# Altium integrated library Renesas Microcontroller R8C.IntLib: 628 symbols (part 17 of 33)
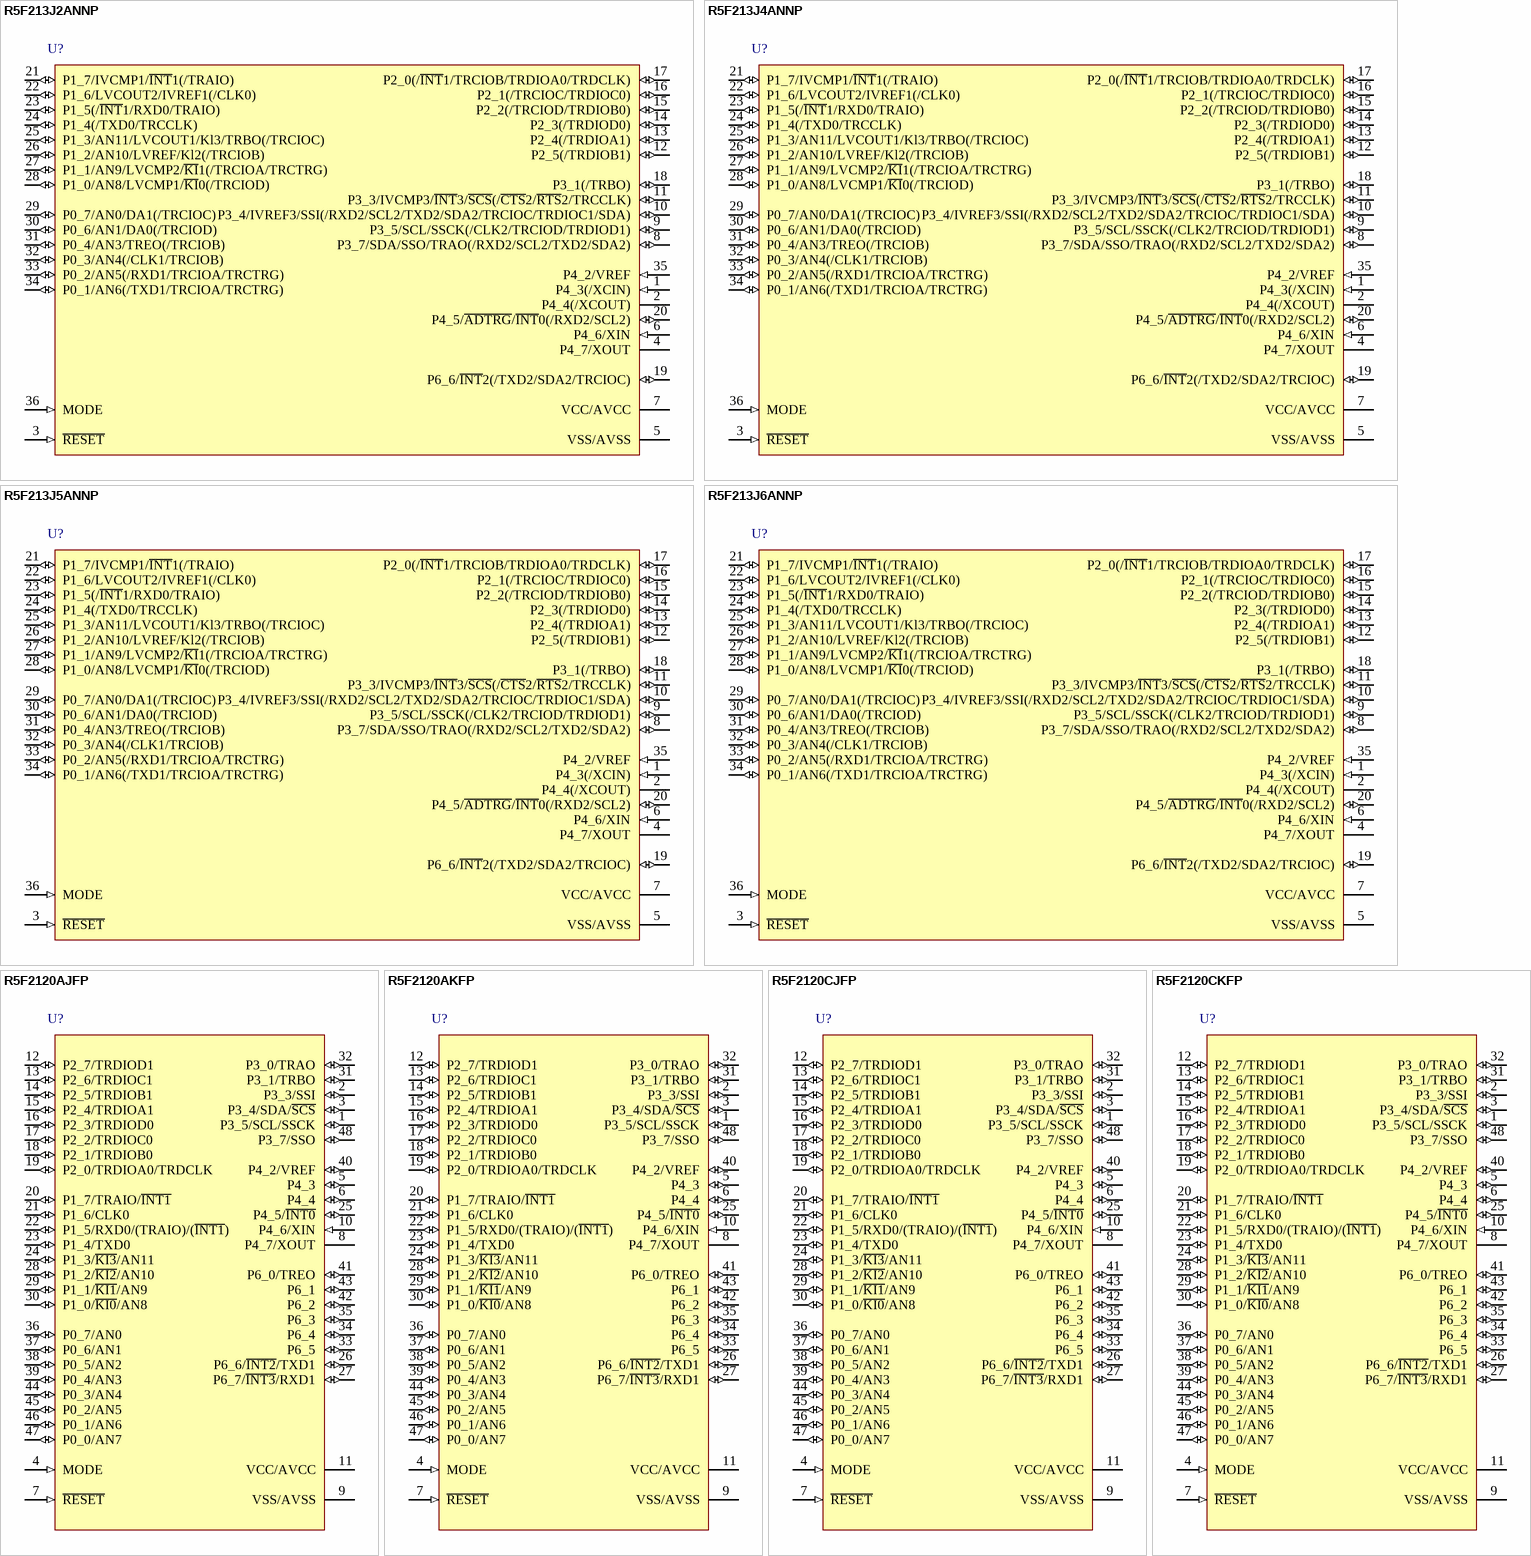
[diagram p132: symbols R5F213J2ANNP to R5F2120CKFP]

## R5F213J4ANNP
designator U?
R8C/3JA Group Single Chip 16-Bit CMOS MCU, 16K + 4K ROM, 1.5K RAM, N Version; Published: 17-Feb-2010; DatasheetVersion: Rev.1.10, Sep-2009; PackageVersion: Jun-2006; PackageReference: PWQN0036KA-B; Publisher: Altium Limited; PackageDescription: 36-Pin Plastic Very-very Thin QFN, 6 x 6 X 0.75 mm Body, 0.5 mm Pitch, Exposed Pad; Code_JEITA: P-HWQFN36-6x6-0.50; ComponentLink1Description: Manufacturer Link; ComponentLink1URL: http://sg.renesas.com/fmwk.jsp?cnt=r8c_family_landing.jsp&fp=/products/mpumcu/r8c_family/; ComponentLink2Description: Datasheet; ComponentLink2URL: http://documentation.renesas.com/eng/products/mpumcu/rej03b0263_r8c3jads.pdf; ComponentLink3Description: Packaging Specification; ComponentLink3URL: http://sg.renesas.com/media/products/common_info/package/pdf/ic/code/pwqn0036ka_b.pdf
footprint PWQN0036KA-B_N (QFN, 36-Leads, Body 6x6mm, Pitch 0.5mm, IPC Medium Density)
footprint PWQN0036KA-B_L (QFN, 36-Leads, Body 6x6mm, Pitch 0.5mm, IPC High Density)
footprint PWQN0036KA-B_M (QFN, 36-Leads, Body 6x6mm, Pitch 0.5mm, IPC Low Density)
pins: 1 P4_3(/XCIN) (in), 2 P4_4(/XCOUT), 3 ~{RESET} (in), 4 P4_7/XOUT, 5 VSS/AVSS (power), 6 P4_6/XIN (in), 7 VCC/AVCC (power), 8 P3_7/SDA/SSO/TRAO(/RXD2/SCL2/TXD2/SDA2) (io), 9 P3_5/SCL/SSCK(/CLK2/TRCIOD/TRDIOD1) (io), 10 P3_4/IVREF3/SSI(/RXD2/SCL2/TXD2/SDA2/TRCIOC/TRDIOC1/SDA) (io), 11 P3_3/IVCMP3/~{INT}3/~{SCS}(/~{CTS}2/~{RTS}2/TRCCLK) (io), 12 P2_5(/TRDIOB1) (io), 13 P2_4(/TRDIOA1) (io), 14 P2_3(/TRDIOD0) (io), 15 P2_2(/TRCIOD/TRDIOB0) (io), 16 P2_1(/TRCIOC/TRDIOC0) (io), 17 P2_0(/~{INT}1/TRCIOB/TRDIOA0/TRDCLK) (io), 18 P3_1(/TRBO) (io), 19 P6_6/~{INT}2(/TXD2/SDA2/TRCIOC) (io), 20 P4_5/~{ADTRG}/~{INT}0(/RXD2/SCL2) (io), 21 P1_7/IVCMP1/~{INT}1(/TRAIO) (io), 22 P1_6/LVCOUT2/IVREF1(/CLK0) (io), 23 P1_5(/~{INT}1/RXD0/TRAIO) (io), 24 P1_4(/TXD0/TRCCLK) (io), 25 P1_3/AN11/LVCOUT1/Kl3/TRBO(/TRCIOC) (io), 26 P1_2/AN10/LVREF/Kl2(/TRCIOB) (io), 27 P1_1/AN9/LVCMP2/~{KI}1(/TRCIOA/TRCTRG) (io), 28 P1_0/AN8/LVCMP1/~{KI}0(/TRCIOD) (io), 29 P0_7/AN0/DA1(/TRCIOC) (io), 30 P0_6/AN1/DA0(/TRCIOD) (io), 31 P0_4/AN3/TREO(/TRCIOB) (io), 32 P0_3/AN4(/CLK1/TRCIOB) (io), 33 P0_2/AN5(/RXD1/TRCIOA/TRCTRG) (io), 34 P0_1/AN6(/TXD1/TRCIOA/TRCTRG) (io), 35 P4_2/VREF (in), 36 MODE (in)

## R5F213J5ANNP
designator U?
R8C/3JA Group Single Chip 16-Bit CMOS MCU, 24K + 4K ROM, 2K RAM, N Version; Published: 17-Feb-2010; DatasheetVersion: Rev.1.10, Sep-2009; PackageVersion: Jun-2006; PackageReference: PWQN0036KA-B; Publisher: Altium Limited; PackageDescription: 36-Pin Plastic Very-very Thin QFN, 6 x 6 X 0.75 mm Body, 0.5 mm Pitch, Exposed Pad; Code_JEITA: P-HWQFN36-6x6-0.50; ComponentLink1Description: Manufacturer Link; ComponentLink1URL: http://sg.renesas.com/fmwk.jsp?cnt=r8c_family_landing.jsp&fp=/products/mpumcu/r8c_family/; ComponentLink2Description: Datasheet; ComponentLink2URL: http://documentation.renesas.com/eng/products/mpumcu/rej03b0263_r8c3jads.pdf; ComponentLink3Description: Packaging Specification; ComponentLink3URL: http://sg.renesas.com/media/products/common_info/package/pdf/ic/code/pwqn0036ka_b.pdf
footprint PWQN0036KA-B_N (QFN, 36-Leads, Body 6x6mm, Pitch 0.5mm, IPC Medium Density)
footprint PWQN0036KA-B_L (QFN, 36-Leads, Body 6x6mm, Pitch 0.5mm, IPC High Density)
footprint PWQN0036KA-B_M (QFN, 36-Leads, Body 6x6mm, Pitch 0.5mm, IPC Low Density)
pins: 1 P4_3(/XCIN) (in), 2 P4_4(/XCOUT), 3 ~{RESET} (in), 4 P4_7/XOUT, 5 VSS/AVSS (power), 6 P4_6/XIN (in), 7 VCC/AVCC (power), 8 P3_7/SDA/SSO/TRAO(/RXD2/SCL2/TXD2/SDA2) (io), 9 P3_5/SCL/SSCK(/CLK2/TRCIOD/TRDIOD1) (io), 10 P3_4/IVREF3/SSI(/RXD2/SCL2/TXD2/SDA2/TRCIOC/TRDIOC1/SDA) (io), 11 P3_3/IVCMP3/~{INT}3/~{SCS}(/~{CTS}2/~{RTS}2/TRCCLK) (io), 12 P2_5(/TRDIOB1) (io), 13 P2_4(/TRDIOA1) (io), 14 P2_3(/TRDIOD0) (io), 15 P2_2(/TRCIOD/TRDIOB0) (io), 16 P2_1(/TRCIOC/TRDIOC0) (io), 17 P2_0(/~{INT}1/TRCIOB/TRDIOA0/TRDCLK) (io), 18 P3_1(/TRBO) (io), 19 P6_6/~{INT}2(/TXD2/SDA2/TRCIOC) (io), 20 P4_5/~{ADTRG}/~{INT}0(/RXD2/SCL2) (io), 21 P1_7/IVCMP1/~{INT}1(/TRAIO) (io), 22 P1_6/LVCOUT2/IVREF1(/CLK0) (io), 23 P1_5(/~{INT}1/RXD0/TRAIO) (io), 24 P1_4(/TXD0/TRCCLK) (io), 25 P1_3/AN11/LVCOUT1/Kl3/TRBO(/TRCIOC) (io), 26 P1_2/AN10/LVREF/Kl2(/TRCIOB) (io), 27 P1_1/AN9/LVCMP2/~{KI}1(/TRCIOA/TRCTRG) (io), 28 P1_0/AN8/LVCMP1/~{KI}0(/TRCIOD) (io), 29 P0_7/AN0/DA1(/TRCIOC) (io), 30 P0_6/AN1/DA0(/TRCIOD) (io), 31 P0_4/AN3/TREO(/TRCIOB) (io), 32 P0_3/AN4(/CLK1/TRCIOB) (io), 33 P0_2/AN5(/RXD1/TRCIOA/TRCTRG) (io), 34 P0_1/AN6(/TXD1/TRCIOA/TRCTRG) (io), 35 P4_2/VREF (in), 36 MODE (in)

## R5F213J6ANNP
designator U?
R8C/3JA Group Single Chip 16-Bit CMOS MCU, 32K + 4K ROM, 2.5K RAM, N Version; Published: 17-Feb-2010; DatasheetVersion: Rev.1.10, Sep-2009; PackageVersion: Jun-2006; PackageReference: PWQN0036KA-B; Publisher: Altium Limited; PackageDescription: 36-Pin Plastic Very-very Thin QFN, 6 x 6 X 0.75 mm Body, 0.5 mm Pitch, Exposed Pad; Code_JEITA: P-HWQFN36-6x6-0.50; ComponentLink1Description: Manufacturer Link; ComponentLink1URL: http://sg.renesas.com/fmwk.jsp?cnt=r8c_family_landing.jsp&fp=/products/mpumcu/r8c_family/; ComponentLink2Description: Datasheet; ComponentLink2URL: http://documentation.renesas.com/eng/products/mpumcu/rej03b0263_r8c3jads.pdf; ComponentLink3Description: Packaging Specification; ComponentLink3URL: http://sg.renesas.com/media/products/common_info/package/pdf/ic/code/pwqn0036ka_b.pdf
footprint PWQN0036KA-B_N (QFN, 36-Leads, Body 6x6mm, Pitch 0.5mm, IPC Medium Density)
footprint PWQN0036KA-B_L (QFN, 36-Leads, Body 6x6mm, Pitch 0.5mm, IPC High Density)
footprint PWQN0036KA-B_M (QFN, 36-Leads, Body 6x6mm, Pitch 0.5mm, IPC Low Density)
pins: 1 P4_3(/XCIN) (in), 2 P4_4(/XCOUT), 3 ~{RESET} (in), 4 P4_7/XOUT, 5 VSS/AVSS (power), 6 P4_6/XIN (in), 7 VCC/AVCC (power), 8 P3_7/SDA/SSO/TRAO(/RXD2/SCL2/TXD2/SDA2) (io), 9 P3_5/SCL/SSCK(/CLK2/TRCIOD/TRDIOD1) (io), 10 P3_4/IVREF3/SSI(/RXD2/SCL2/TXD2/SDA2/TRCIOC/TRDIOC1/SDA) (io), 11 P3_3/IVCMP3/~{INT}3/~{SCS}(/~{CTS}2/~{RTS}2/TRCCLK) (io), 12 P2_5(/TRDIOB1) (io), 13 P2_4(/TRDIOA1) (io), 14 P2_3(/TRDIOD0) (io), 15 P2_2(/TRCIOD/TRDIOB0) (io), 16 P2_1(/TRCIOC/TRDIOC0) (io), 17 P2_0(/~{INT}1/TRCIOB/TRDIOA0/TRDCLK) (io), 18 P3_1(/TRBO) (io), 19 P6_6/~{INT}2(/TXD2/SDA2/TRCIOC) (io), 20 P4_5/~{ADTRG}/~{INT}0(/RXD2/SCL2) (io), 21 P1_7/IVCMP1/~{INT}1(/TRAIO) (io), 22 P1_6/LVCOUT2/IVREF1(/CLK0) (io), 23 P1_5(/~{INT}1/RXD0/TRAIO) (io), 24 P1_4(/TXD0/TRCCLK) (io), 25 P1_3/AN11/LVCOUT1/Kl3/TRBO(/TRCIOC) (io), 26 P1_2/AN10/LVREF/Kl2(/TRCIOB) (io), 27 P1_1/AN9/LVCMP2/~{KI}1(/TRCIOA/TRCTRG) (io), 28 P1_0/AN8/LVCMP1/~{KI}0(/TRCIOD) (io), 29 P0_7/AN0/DA1(/TRCIOC) (io), 30 P0_6/AN1/DA0(/TRCIOD) (io), 31 P0_4/AN3/TREO(/TRCIOB) (io), 32 P0_3/AN4(/CLK1/TRCIOB) (io), 33 P0_2/AN5(/RXD1/TRCIOA/TRCTRG) (io), 34 P0_1/AN6(/TXD1/TRCIOA/TRCTRG) (io), 35 P4_2/VREF (in), 36 MODE (in)

## R5F2120AJFP
designator U?
R8C/20 Group Single Chip 16-Bit CMOS MCU, 96K ROM, 5K RAM, J Version; Published: 30-Oct-2009; DatasheetVersion: Rev.2.00, Aug-2008; PackageVersion: Oct-2005; PackageReference: PLQP0048KB-A; Publisher: Altium Limited; PackageDescription: 48-Pin Plastic Low Profile QFP, 7 x 7 x 1.4 mm Body, 0.5 mm Pitch; Code_JEITA: P-LQFP48-7x7-0.50; Code_IPC: SQFP50P900X900-48; ComponentLink1Description: Manufacturer Link; ComponentLink1URL: http://sg.renesas.com/fmwk.jsp?cnt=r8c_family_landing.jsp&fp=/products/mpumcu/r8c_family/; ComponentLink2Description: Datasheet; ComponentLink2URL: http://documentation.renesas.com/eng/products/mpumcu/rej03b0120_r8c2021ds.pdf; ComponentLink3Description: Packaging Specification; ComponentLink3URL: http://sg.renesas.com/media/products/common_info/package/pdf/ic/code/plqp0048kb_a.pdf
footprint PLQP0048KB-A_N (Shrink QFP, 48-Leads, Body 7x7mm, Pitch 0.5mm, IPC Medium Density)
footprint PLQP0048KB-A_L (Shrink QFP, 48-Leads, Body 7x7mm, Pitch 0.5mm, IPC High Density)
footprint PLQP0048KB-A_M (Shrink QFP, 48-Leads, Body 7x7mm, Pitch 0.5mm, IPC Low Density)
pins: 1 P3_5/SCL/SSCK (io), 2 P3_3/SSI (io), 3 P3_4/SDA/~{SCS} (io), 4 MODE (in), 5 P4_3 (io), 6 P4_4 (io), 7 ~{RESET} (in), 8 P4_7/XOUT, 9 VSS/AVSS (power), 10 P4_6/XIN (in), 11 VCC/AVCC (power), 12 P2_7/TRDIOD1 (io), 13 P2_6/TRDIOC1 (io), 14 P2_5/TRDIOB1 (io), 15 P2_4/TRDIOA1 (io), 16 P2_3/TRDIOD0 (io), 17 P2_2/TRDIOC0 (io), 18 P2_1/TRDIOB0 (io), 19 P2_0/TRDIOA0/TRDCLK (io), 20 P1_7/TRAIO/~{INT1} (io), 21 P1_6/CLK0 (io), 22 P1_5/RXD0/(TRAIO)/(~{INT1}) (io), 23 P1_4/TXD0 (io), 24 P1_3/~{KI3}/AN11 (io), 25 P4_5/~{INT0} (io), 26 P6_6/~{INT2}/TXD1 (io), 27 P6_7/~{INT3}/RXD1 (io), 28 P1_2/~{KI2}/AN10 (io), 29 P1_1/~{KI1}/AN9 (io), 30 P1_0/~{KI0}/AN8 (io), 31 P3_1/TRBO (io), 32 P3_0/TRAO (io), 33 P6_5 (io), 34 P6_4 (io), 35 P6_3 (io), 36 P0_7/AN0 (io), 37 P0_6/AN1 (io), 38 P0_5/AN2 (io), 39 P0_4/AN3 (io), 40 P4_2/VREF (io), 41 P6_0/TREO (io), 42 P6_2 (io), 43 P6_1 (io), 44 P0_3/AN4 (io), 45 P0_2/AN5 (io), 46 P0_1/AN6 (io), 47 P0_0/AN7 (io), 48 P3_7/SSO (io)

## R5F2120AKFP
designator U?
R8C/20 Group Single Chip 16-Bit CMOS MCU, 96K ROM, 5K RAM, K Version; Published: 30-Oct-2009; DatasheetVersion: Rev.2.00, Aug-2008; PackageVersion: Oct-2005; PackageReference: PLQP0048KB-A; Publisher: Altium Limited; PackageDescription: 48-Pin Plastic Low Profile QFP, 7 x 7 x 1.4 mm Body, 0.5 mm Pitch; Code_JEITA: P-LQFP48-7x7-0.50; Code_IPC: SQFP50P900X900-48; ComponentLink1Description: Manufacturer Link; ComponentLink1URL: http://sg.renesas.com/fmwk.jsp?cnt=r8c_family_landing.jsp&fp=/products/mpumcu/r8c_family/; ComponentLink2Description: Datasheet; ComponentLink2URL: http://documentation.renesas.com/eng/products/mpumcu/rej03b0120_r8c2021ds.pdf; ComponentLink3Description: Packaging Specification; ComponentLink3URL: http://sg.renesas.com/media/products/common_info/package/pdf/ic/code/plqp0048kb_a.pdf
footprint PLQP0048KB-A_N (Shrink QFP, 48-Leads, Body 7x7mm, Pitch 0.5mm, IPC Medium Density)
footprint PLQP0048KB-A_L (Shrink QFP, 48-Leads, Body 7x7mm, Pitch 0.5mm, IPC High Density)
footprint PLQP0048KB-A_M (Shrink QFP, 48-Leads, Body 7x7mm, Pitch 0.5mm, IPC Low Density)
pins: 1 P3_5/SCL/SSCK (io), 2 P3_3/SSI (io), 3 P3_4/SDA/~{SCS} (io), 4 MODE (in), 5 P4_3 (io), 6 P4_4 (io), 7 ~{RESET} (in), 8 P4_7/XOUT, 9 VSS/AVSS (power), 10 P4_6/XIN (in), 11 VCC/AVCC (power), 12 P2_7/TRDIOD1 (io), 13 P2_6/TRDIOC1 (io), 14 P2_5/TRDIOB1 (io), 15 P2_4/TRDIOA1 (io), 16 P2_3/TRDIOD0 (io), 17 P2_2/TRDIOC0 (io), 18 P2_1/TRDIOB0 (io), 19 P2_0/TRDIOA0/TRDCLK (io), 20 P1_7/TRAIO/~{INT1} (io), 21 P1_6/CLK0 (io), 22 P1_5/RXD0/(TRAIO)/(~{INT1}) (io), 23 P1_4/TXD0 (io), 24 P1_3/~{KI3}/AN11 (io), 25 P4_5/~{INT0} (io), 26 P6_6/~{INT2}/TXD1 (io), 27 P6_7/~{INT3}/RXD1 (io), 28 P1_2/~{KI2}/AN10 (io), 29 P1_1/~{KI1}/AN9 (io), 30 P1_0/~{KI0}/AN8 (io), 31 P3_1/TRBO (io), 32 P3_0/TRAO (io), 33 P6_5 (io), 34 P6_4 (io), 35 P6_3 (io), 36 P0_7/AN0 (io), 37 P0_6/AN1 (io), 38 P0_5/AN2 (io), 39 P0_4/AN3 (io), 40 P4_2/VREF (io), 41 P6_0/TREO (io), 42 P6_2 (io), 43 P6_1 (io), 44 P0_3/AN4 (io), 45 P0_2/AN5 (io), 46 P0_1/AN6 (io), 47 P0_0/AN7 (io), 48 P3_7/SSO (io)

## R5F2120CJFP
designator U?
R8C/20 Group Single Chip 16-Bit CMOS MCU, 128K ROM, 6K RAM, J Version; Published: 30-Oct-2009; DatasheetVersion: Rev.2.00, Aug-2008; PackageVersion: Oct-2005; PackageReference: PLQP0048KB-A; Publisher: Altium Limited; PackageDescription: 48-Pin Plastic Low Profile QFP, 7 x 7 x 1.4 mm Body, 0.5 mm Pitch; Code_JEITA: P-LQFP48-7x7-0.50; Code_IPC: SQFP50P900X900-48; ComponentLink1Description: Manufacturer Link; ComponentLink1URL: http://sg.renesas.com/fmwk.jsp?cnt=r8c_family_landing.jsp&fp=/products/mpumcu/r8c_family/; ComponentLink2Description: Datasheet; ComponentLink2URL: http://documentation.renesas.com/eng/products/mpumcu/rej03b0120_r8c2021ds.pdf; ComponentLink3Description: Packaging Specification; ComponentLink3URL: http://sg.renesas.com/media/products/common_info/package/pdf/ic/code/plqp0048kb_a.pdf
footprint PLQP0048KB-A_N (Shrink QFP, 48-Leads, Body 7x7mm, Pitch 0.5mm, IPC Medium Density)
footprint PLQP0048KB-A_L (Shrink QFP, 48-Leads, Body 7x7mm, Pitch 0.5mm, IPC High Density)
footprint PLQP0048KB-A_M (Shrink QFP, 48-Leads, Body 7x7mm, Pitch 0.5mm, IPC Low Density)
pins: 1 P3_5/SCL/SSCK (io), 2 P3_3/SSI (io), 3 P3_4/SDA/~{SCS} (io), 4 MODE (in), 5 P4_3 (io), 6 P4_4 (io), 7 ~{RESET} (in), 8 P4_7/XOUT, 9 VSS/AVSS (power), 10 P4_6/XIN (in), 11 VCC/AVCC (power), 12 P2_7/TRDIOD1 (io), 13 P2_6/TRDIOC1 (io), 14 P2_5/TRDIOB1 (io), 15 P2_4/TRDIOA1 (io), 16 P2_3/TRDIOD0 (io), 17 P2_2/TRDIOC0 (io), 18 P2_1/TRDIOB0 (io), 19 P2_0/TRDIOA0/TRDCLK (io), 20 P1_7/TRAIO/~{INT1} (io), 21 P1_6/CLK0 (io), 22 P1_5/RXD0/(TRAIO)/(~{INT1}) (io), 23 P1_4/TXD0 (io), 24 P1_3/~{KI3}/AN11 (io), 25 P4_5/~{INT0} (io), 26 P6_6/~{INT2}/TXD1 (io), 27 P6_7/~{INT3}/RXD1 (io), 28 P1_2/~{KI2}/AN10 (io), 29 P1_1/~{KI1}/AN9 (io), 30 P1_0/~{KI0}/AN8 (io), 31 P3_1/TRBO (io), 32 P3_0/TRAO (io), 33 P6_5 (io), 34 P6_4 (io), 35 P6_3 (io), 36 P0_7/AN0 (io), 37 P0_6/AN1 (io), 38 P0_5/AN2 (io), 39 P0_4/AN3 (io), 40 P4_2/VREF (io), 41 P6_0/TREO (io), 42 P6_2 (io), 43 P6_1 (io), 44 P0_3/AN4 (io), 45 P0_2/AN5 (io), 46 P0_1/AN6 (io), 47 P0_0/AN7 (io), 48 P3_7/SSO (io)

## R5F2120CKFP
designator U?
R8C/20 Group Single Chip 16-Bit CMOS MCU, 128K ROM, 6K RAM, K Version; Published: 30-Oct-2009; DatasheetVersion: Rev.2.00, Aug-2008; PackageVersion: Oct-2005; PackageReference: PLQP0048KB-A; Publisher: Altium Limited; PackageDescription: 48-Pin Plastic Low Profile QFP, 7 x 7 x 1.4 mm Body, 0.5 mm Pitch; Code_JEITA: P-LQFP48-7x7-0.50; Code_IPC: SQFP50P900X900-48; ComponentLink1Description: Manufacturer Link; ComponentLink1URL: http://sg.renesas.com/fmwk.jsp?cnt=r8c_family_landing.jsp&fp=/products/mpumcu/r8c_family/; ComponentLink2Description: Datasheet; ComponentLink2URL: http://documentation.renesas.com/eng/products/mpumcu/rej03b0120_r8c2021ds.pdf; ComponentLink3Description: Packaging Specification; ComponentLink3URL: http://sg.renesas.com/media/products/common_info/package/pdf/ic/code/plqp0048kb_a.pdf
footprint PLQP0048KB-A_N (Shrink QFP, 48-Leads, Body 7x7mm, Pitch 0.5mm, IPC Medium Density)
footprint PLQP0048KB-A_L (Shrink QFP, 48-Leads, Body 7x7mm, Pitch 0.5mm, IPC High Density)
footprint PLQP0048KB-A_M (Shrink QFP, 48-Leads, Body 7x7mm, Pitch 0.5mm, IPC Low Density)
pins: 1 P3_5/SCL/SSCK (io), 2 P3_3/SSI (io), 3 P3_4/SDA/~{SCS} (io), 4 MODE (in), 5 P4_3 (io), 6 P4_4 (io), 7 ~{RESET} (in), 8 P4_7/XOUT, 9 VSS/AVSS (power), 10 P4_6/XIN (in), 11 VCC/AVCC (power), 12 P2_7/TRDIOD1 (io), 13 P2_6/TRDIOC1 (io), 14 P2_5/TRDIOB1 (io), 15 P2_4/TRDIOA1 (io), 16 P2_3/TRDIOD0 (io), 17 P2_2/TRDIOC0 (io), 18 P2_1/TRDIOB0 (io), 19 P2_0/TRDIOA0/TRDCLK (io), 20 P1_7/TRAIO/~{INT1} (io), 21 P1_6/CLK0 (io), 22 P1_5/RXD0/(TRAIO)/(~{INT1}) (io), 23 P1_4/TXD0 (io), 24 P1_3/~{KI3}/AN11 (io), 25 P4_5/~{INT0} (io), 26 P6_6/~{INT2}/TXD1 (io), 27 P6_7/~{INT3}/RXD1 (io), 28 P1_2/~{KI2}/AN10 (io), 29 P1_1/~{KI1}/AN9 (io), 30 P1_0/~{KI0}/AN8 (io), 31 P3_1/TRBO (io), 32 P3_0/TRAO (io), 33 P6_5 (io), 34 P6_4 (io), 35 P6_3 (io), 36 P0_7/AN0 (io), 37 P0_6/AN1 (io), 38 P0_5/AN2 (io), 39 P0_4/AN3 (io), 40 P4_2/VREF (io), 41 P6_0/TREO (io), 42 P6_2 (io), 43 P6_1 (io), 44 P0_3/AN4 (io), 45 P0_2/AN5 (io), 46 P0_1/AN6 (io), 47 P0_0/AN7 (io), 48 P3_7/SSO (io)

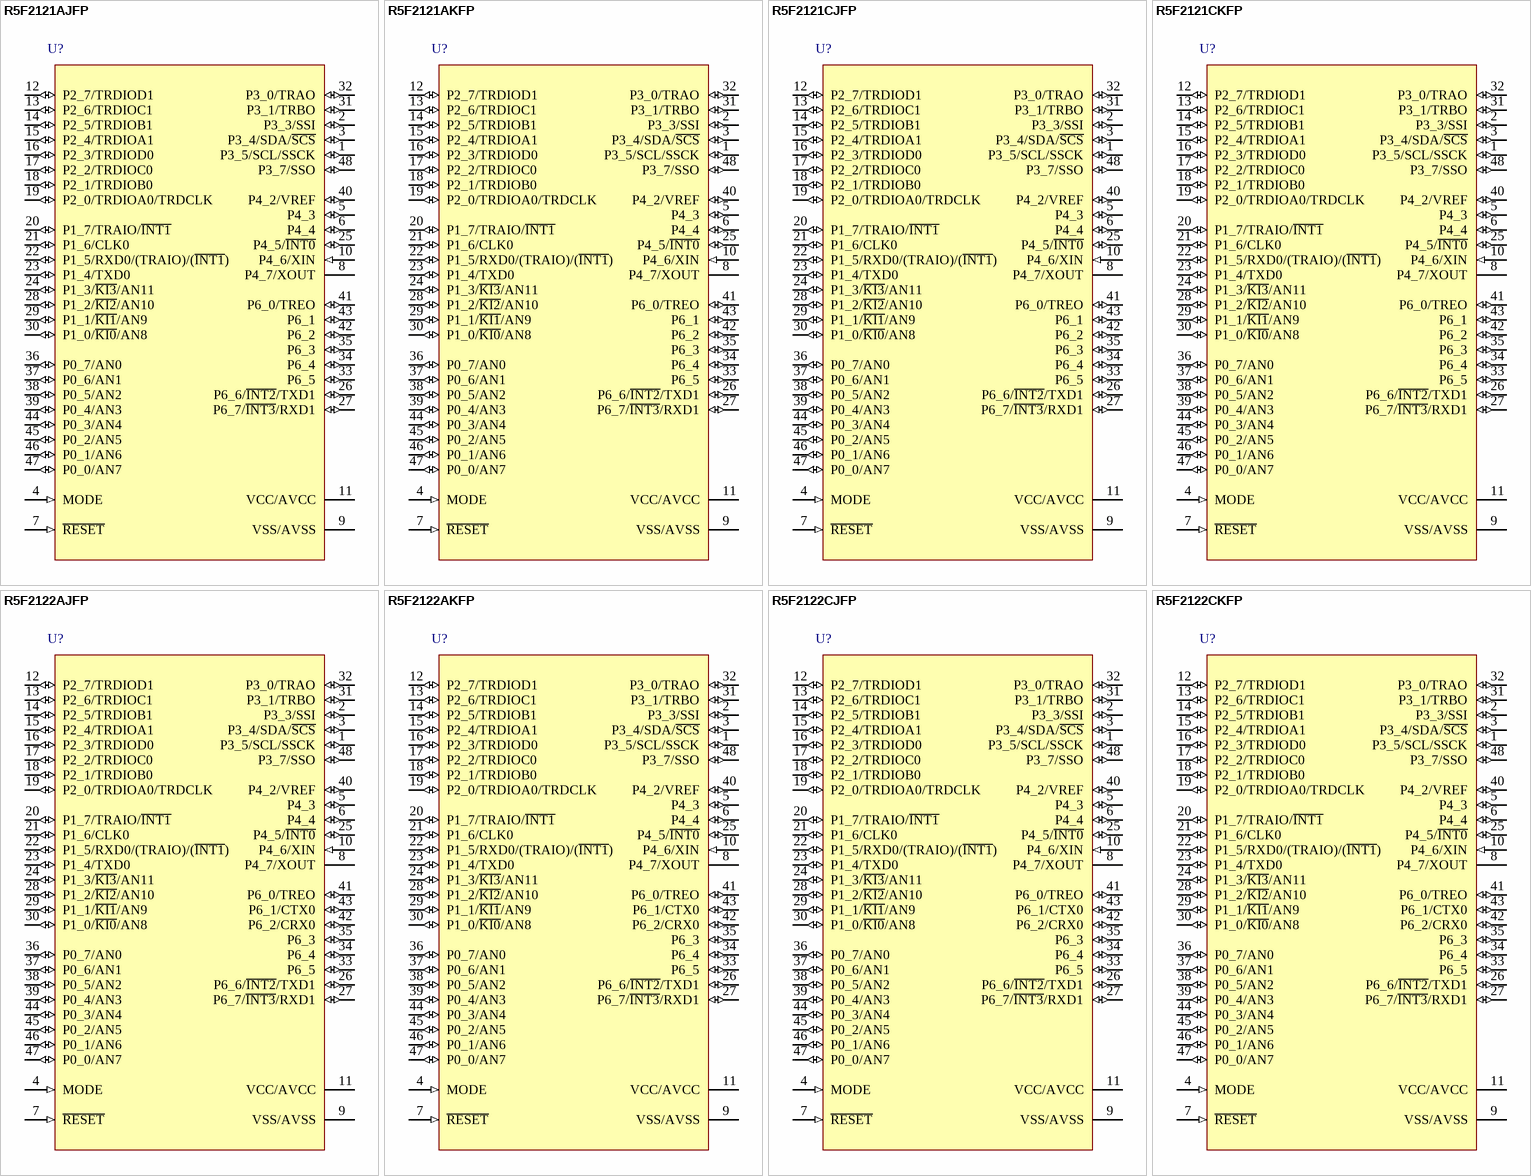
[diagram p58: symbols R5F2121AJFP to R5F2122CKFP]

## R5F2121AJFP
designator U?
R8C/21 Group Single Chip 16-Bit CMOS MCU, 96K ROM + 1K x2 Data Flash, 5K RAM, J Version; Published: 30-Oct-2009; DatasheetVersion: Rev.2.00, Aug-2008; PackageVersion: Oct-2005; PackageReference: PLQP0048KB-A; Publisher: Altium Limited; PackageDescription: 48-Pin Plastic Low Profile QFP, 7 x 7 x 1.4 mm Body, 0.5 mm Pitch; Code_JEITA: P-LQFP48-7x7-0.50; Code_IPC: SQFP50P900X900-48; ComponentLink1Description: Manufacturer Link; ComponentLink1URL: http://sg.renesas.com/fmwk.jsp?cnt=r8c_family_landing.jsp&fp=/products/mpumcu/r8c_family/; ComponentLink2Description: Datasheet; ComponentLink2URL: http://documentation.renesas.com/eng/products/mpumcu/rej03b0120_r8c2021ds.pdf; ComponentLink3Description: Packaging Specification; ComponentLink3URL: http://sg.renesas.com/media/products/common_info/package/pdf/ic/code/plqp0048kb_a.pdf
footprint PLQP0048KB-A_N (Shrink QFP, 48-Leads, Body 7x7mm, Pitch 0.5mm, IPC Medium Density)
footprint PLQP0048KB-A_L (Shrink QFP, 48-Leads, Body 7x7mm, Pitch 0.5mm, IPC High Density)
footprint PLQP0048KB-A_M (Shrink QFP, 48-Leads, Body 7x7mm, Pitch 0.5mm, IPC Low Density)
pins: 1 P3_5/SCL/SSCK (io), 2 P3_3/SSI (io), 3 P3_4/SDA/~{SCS} (io), 4 MODE (in), 5 P4_3 (io), 6 P4_4 (io), 7 ~{RESET} (in), 8 P4_7/XOUT, 9 VSS/AVSS (power), 10 P4_6/XIN (in), 11 VCC/AVCC (power), 12 P2_7/TRDIOD1 (io), 13 P2_6/TRDIOC1 (io), 14 P2_5/TRDIOB1 (io), 15 P2_4/TRDIOA1 (io), 16 P2_3/TRDIOD0 (io), 17 P2_2/TRDIOC0 (io), 18 P2_1/TRDIOB0 (io), 19 P2_0/TRDIOA0/TRDCLK (io), 20 P1_7/TRAIO/~{INT1} (io), 21 P1_6/CLK0 (io), 22 P1_5/RXD0/(TRAIO)/(~{INT1}) (io), 23 P1_4/TXD0 (io), 24 P1_3/~{KI3}/AN11 (io), 25 P4_5/~{INT0} (io), 26 P6_6/~{INT2}/TXD1 (io), 27 P6_7/~{INT3}/RXD1 (io), 28 P1_2/~{KI2}/AN10 (io), 29 P1_1/~{KI1}/AN9 (io), 30 P1_0/~{KI0}/AN8 (io), 31 P3_1/TRBO (io), 32 P3_0/TRAO (io), 33 P6_5 (io), 34 P6_4 (io), 35 P6_3 (io), 36 P0_7/AN0 (io), 37 P0_6/AN1 (io), 38 P0_5/AN2 (io), 39 P0_4/AN3 (io), 40 P4_2/VREF (io), 41 P6_0/TREO (io), 42 P6_2 (io), 43 P6_1 (io), 44 P0_3/AN4 (io), 45 P0_2/AN5 (io), 46 P0_1/AN6 (io), 47 P0_0/AN7 (io), 48 P3_7/SSO (io)

## R5F2121AKFP
designator U?
R8C/21 Group Single Chip 16-Bit CMOS MCU, 96K ROM + 1K x2 Data Flash, 5K RAM, K Version; Published: 30-Oct-2009; DatasheetVersion: Rev.2.00, Aug-2008; PackageVersion: Oct-2005; PackageReference: PLQP0048KB-A; Publisher: Altium Limited; PackageDescription: 48-Pin Plastic Low Profile QFP, 7 x 7 x 1.4 mm Body, 0.5 mm Pitch; Code_JEITA: P-LQFP48-7x7-0.50; Code_IPC: SQFP50P900X900-48; ComponentLink1Description: Manufacturer Link; ComponentLink1URL: http://sg.renesas.com/fmwk.jsp?cnt=r8c_family_landing.jsp&fp=/products/mpumcu/r8c_family/; ComponentLink2Description: Datasheet; ComponentLink2URL: http://documentation.renesas.com/eng/products/mpumcu/rej03b0120_r8c2021ds.pdf; ComponentLink3Description: Packaging Specification; ComponentLink3URL: http://sg.renesas.com/media/products/common_info/package/pdf/ic/code/plqp0048kb_a.pdf
footprint PLQP0048KB-A_N (Shrink QFP, 48-Leads, Body 7x7mm, Pitch 0.5mm, IPC Medium Density)
footprint PLQP0048KB-A_L (Shrink QFP, 48-Leads, Body 7x7mm, Pitch 0.5mm, IPC High Density)
footprint PLQP0048KB-A_M (Shrink QFP, 48-Leads, Body 7x7mm, Pitch 0.5mm, IPC Low Density)
pins: 1 P3_5/SCL/SSCK (io), 2 P3_3/SSI (io), 3 P3_4/SDA/~{SCS} (io), 4 MODE (in), 5 P4_3 (io), 6 P4_4 (io), 7 ~{RESET} (in), 8 P4_7/XOUT, 9 VSS/AVSS (power), 10 P4_6/XIN (in), 11 VCC/AVCC (power), 12 P2_7/TRDIOD1 (io), 13 P2_6/TRDIOC1 (io), 14 P2_5/TRDIOB1 (io), 15 P2_4/TRDIOA1 (io), 16 P2_3/TRDIOD0 (io), 17 P2_2/TRDIOC0 (io), 18 P2_1/TRDIOB0 (io), 19 P2_0/TRDIOA0/TRDCLK (io), 20 P1_7/TRAIO/~{INT1} (io), 21 P1_6/CLK0 (io), 22 P1_5/RXD0/(TRAIO)/(~{INT1}) (io), 23 P1_4/TXD0 (io), 24 P1_3/~{KI3}/AN11 (io), 25 P4_5/~{INT0} (io), 26 P6_6/~{INT2}/TXD1 (io), 27 P6_7/~{INT3}/RXD1 (io), 28 P1_2/~{KI2}/AN10 (io), 29 P1_1/~{KI1}/AN9 (io), 30 P1_0/~{KI0}/AN8 (io), 31 P3_1/TRBO (io), 32 P3_0/TRAO (io), 33 P6_5 (io), 34 P6_4 (io), 35 P6_3 (io), 36 P0_7/AN0 (io), 37 P0_6/AN1 (io), 38 P0_5/AN2 (io), 39 P0_4/AN3 (io), 40 P4_2/VREF (io), 41 P6_0/TREO (io), 42 P6_2 (io), 43 P6_1 (io), 44 P0_3/AN4 (io), 45 P0_2/AN5 (io), 46 P0_1/AN6 (io), 47 P0_0/AN7 (io), 48 P3_7/SSO (io)

## R5F2121CJFP
designator U?
R8C/21 Group Single Chip 16-Bit CMOS MCU, 128K ROM + 1K x2 Data Flash, 6K RAM, J Version; Published: 30-Oct-2009; DatasheetVersion: Rev.2.00, Aug-2008; PackageVersion: Oct-2005; PackageReference: PLQP0048KB-A; Publisher: Altium Limited; PackageDescription: 48-Pin Plastic Low Profile QFP, 7 x 7 x 1.4 mm Body, 0.5 mm Pitch; Code_JEITA: P-LQFP48-7x7-0.50; Code_IPC: SQFP50P900X900-48; ComponentLink1Description: Manufacturer Link; ComponentLink1URL: http://sg.renesas.com/fmwk.jsp?cnt=r8c_family_landing.jsp&fp=/products/mpumcu/r8c_family/; ComponentLink2Description: Datasheet; ComponentLink2URL: http://documentation.renesas.com/eng/products/mpumcu/rej03b0120_r8c2021ds.pdf; ComponentLink3Description: Packaging Specification; ComponentLink3URL: http://sg.renesas.com/media/products/common_info/package/pdf/ic/code/plqp0048kb_a.pdf
footprint PLQP0048KB-A_N (Shrink QFP, 48-Leads, Body 7x7mm, Pitch 0.5mm, IPC Medium Density)
footprint PLQP0048KB-A_L (Shrink QFP, 48-Leads, Body 7x7mm, Pitch 0.5mm, IPC High Density)
footprint PLQP0048KB-A_M (Shrink QFP, 48-Leads, Body 7x7mm, Pitch 0.5mm, IPC Low Density)
pins: 1 P3_5/SCL/SSCK (io), 2 P3_3/SSI (io), 3 P3_4/SDA/~{SCS} (io), 4 MODE (in), 5 P4_3 (io), 6 P4_4 (io), 7 ~{RESET} (in), 8 P4_7/XOUT, 9 VSS/AVSS (power), 10 P4_6/XIN (in), 11 VCC/AVCC (power), 12 P2_7/TRDIOD1 (io), 13 P2_6/TRDIOC1 (io), 14 P2_5/TRDIOB1 (io), 15 P2_4/TRDIOA1 (io), 16 P2_3/TRDIOD0 (io), 17 P2_2/TRDIOC0 (io), 18 P2_1/TRDIOB0 (io), 19 P2_0/TRDIOA0/TRDCLK (io), 20 P1_7/TRAIO/~{INT1} (io), 21 P1_6/CLK0 (io), 22 P1_5/RXD0/(TRAIO)/(~{INT1}) (io), 23 P1_4/TXD0 (io), 24 P1_3/~{KI3}/AN11 (io), 25 P4_5/~{INT0} (io), 26 P6_6/~{INT2}/TXD1 (io), 27 P6_7/~{INT3}/RXD1 (io), 28 P1_2/~{KI2}/AN10 (io), 29 P1_1/~{KI1}/AN9 (io), 30 P1_0/~{KI0}/AN8 (io), 31 P3_1/TRBO (io), 32 P3_0/TRAO (io), 33 P6_5 (io), 34 P6_4 (io), 35 P6_3 (io), 36 P0_7/AN0 (io), 37 P0_6/AN1 (io), 38 P0_5/AN2 (io), 39 P0_4/AN3 (io), 40 P4_2/VREF (io), 41 P6_0/TREO (io), 42 P6_2 (io), 43 P6_1 (io), 44 P0_3/AN4 (io), 45 P0_2/AN5 (io), 46 P0_1/AN6 (io), 47 P0_0/AN7 (io), 48 P3_7/SSO (io)

## R5F2121CKFP
designator U?
R8C/21 Group Single Chip 16-Bit CMOS MCU, 128K ROM + 1K x2 Data Flash, 6K RAM, K Version; Published: 30-Oct-2009; DatasheetVersion: Rev.2.00, Aug-2008; PackageVersion: Oct-2005; PackageReference: PLQP0048KB-A; Publisher: Altium Limited; PackageDescription: 48-Pin Plastic Low Profile QFP, 7 x 7 x 1.4 mm Body, 0.5 mm Pitch; Code_JEITA: P-LQFP48-7x7-0.50; Code_IPC: SQFP50P900X900-48; ComponentLink1Description: Manufacturer Link; ComponentLink1URL: http://sg.renesas.com/fmwk.jsp?cnt=r8c_family_landing.jsp&fp=/products/mpumcu/r8c_family/; ComponentLink2Description: Datasheet; ComponentLink2URL: http://documentation.renesas.com/eng/products/mpumcu/rej03b0120_r8c2021ds.pdf; ComponentLink3Description: Packaging Specification; ComponentLink3URL: http://sg.renesas.com/media/products/common_info/package/pdf/ic/code/plqp0048kb_a.pdf
footprint PLQP0048KB-A_N (Shrink QFP, 48-Leads, Body 7x7mm, Pitch 0.5mm, IPC Medium Density)
footprint PLQP0048KB-A_L (Shrink QFP, 48-Leads, Body 7x7mm, Pitch 0.5mm, IPC High Density)
footprint PLQP0048KB-A_M (Shrink QFP, 48-Leads, Body 7x7mm, Pitch 0.5mm, IPC Low Density)
pins: 1 P3_5/SCL/SSCK (io), 2 P3_3/SSI (io), 3 P3_4/SDA/~{SCS} (io), 4 MODE (in), 5 P4_3 (io), 6 P4_4 (io), 7 ~{RESET} (in), 8 P4_7/XOUT, 9 VSS/AVSS (power), 10 P4_6/XIN (in), 11 VCC/AVCC (power), 12 P2_7/TRDIOD1 (io), 13 P2_6/TRDIOC1 (io), 14 P2_5/TRDIOB1 (io), 15 P2_4/TRDIOA1 (io), 16 P2_3/TRDIOD0 (io), 17 P2_2/TRDIOC0 (io), 18 P2_1/TRDIOB0 (io), 19 P2_0/TRDIOA0/TRDCLK (io), 20 P1_7/TRAIO/~{INT1} (io), 21 P1_6/CLK0 (io), 22 P1_5/RXD0/(TRAIO)/(~{INT1}) (io), 23 P1_4/TXD0 (io), 24 P1_3/~{KI3}/AN11 (io), 25 P4_5/~{INT0} (io), 26 P6_6/~{INT2}/TXD1 (io), 27 P6_7/~{INT3}/RXD1 (io), 28 P1_2/~{KI2}/AN10 (io), 29 P1_1/~{KI1}/AN9 (io), 30 P1_0/~{KI0}/AN8 (io), 31 P3_1/TRBO (io), 32 P3_0/TRAO (io), 33 P6_5 (io), 34 P6_4 (io), 35 P6_3 (io), 36 P0_7/AN0 (io), 37 P0_6/AN1 (io), 38 P0_5/AN2 (io), 39 P0_4/AN3 (io), 40 P4_2/VREF (io), 41 P6_0/TREO (io), 42 P6_2 (io), 43 P6_1 (io), 44 P0_3/AN4 (io), 45 P0_2/AN5 (io), 46 P0_1/AN6 (io), 47 P0_0/AN7 (io), 48 P3_7/SSO (io)

## R5F2122AJFP
designator U?
R8C/22 Group Single Chip 16-Bit CMOS MCU, 96K ROM, 5K RAM, J Version; Published: 30-Oct-2009; DatasheetVersion: Rev.2.00, Aug-2008; PackageVersion: Oct-2005; PackageReference: PLQP0048KB-A; Publisher: Altium Limited; PackageDescription: 48-Pin Plastic Low Profile QFP, 7 x 7 x 1.4 mm Body, 0.5 mm Pitch; Code_JEITA: P-LQFP48-7x7-0.50; Code_IPC: SQFP50P900X900-48; ComponentLink1Description: Manufacturer Link; ComponentLink1URL: http://sg.renesas.com/fmwk.jsp?cnt=r8c_family_landing.jsp&fp=/products/mpumcu/r8c_family/; ComponentLink2Description: Datasheet; ComponentLink2URL: http://documentation.renesas.com/eng/products/mpumcu/rej03b0097_r8c2223ds.pdf; ComponentLink3Description: Packaging Specification; ComponentLink3URL: http://sg.renesas.com/media/products/common_info/package/pdf/ic/code/plqp0048kb_a.pdf
footprint PLQP0048KB-A_N (Shrink QFP, 48-Leads, Body 7x7mm, Pitch 0.5mm, IPC Medium Density)
footprint PLQP0048KB-A_L (Shrink QFP, 48-Leads, Body 7x7mm, Pitch 0.5mm, IPC High Density)
footprint PLQP0048KB-A_M (Shrink QFP, 48-Leads, Body 7x7mm, Pitch 0.5mm, IPC Low Density)
pins: 1 P3_5/SCL/SSCK (io), 2 P3_3/SSI (io), 3 P3_4/SDA/~{SCS} (io), 4 MODE (in), 5 P4_3 (io), 6 P4_4 (io), 7 ~{RESET} (in), 8 P4_7/XOUT, 9 VSS/AVSS (power), 10 P4_6/XIN (in), 11 VCC/AVCC (power), 12 P2_7/TRDIOD1 (io), 13 P2_6/TRDIOC1 (io), 14 P2_5/TRDIOB1 (io), 15 P2_4/TRDIOA1 (io), 16 P2_3/TRDIOD0 (io), 17 P2_2/TRDIOC0 (io), 18 P2_1/TRDIOB0 (io), 19 P2_0/TRDIOA0/TRDCLK (io), 20 P1_7/TRAIO/~{INT1} (io), 21 P1_6/CLK0 (io), 22 P1_5/RXD0/(TRAIO)/(~{INT1}) (io), 23 P1_4/TXD0 (io), 24 P1_3/~{KI3}/AN11 (io), 25 P4_5/~{INT0} (io), 26 P6_6/~{INT2}/TXD1 (io), 27 P6_7/~{INT3}/RXD1 (io), 28 P1_2/~{KI2}/AN10 (io), 29 P1_1/~{KI1}/AN9 (io), 30 P1_0/~{KI0}/AN8 (io), 31 P3_1/TRBO (io), 32 P3_0/TRAO (io), 33 P6_5 (io), 34 P6_4 (io), 35 P6_3 (io), 36 P0_7/AN0 (io), 37 P0_6/AN1 (io), 38 P0_5/AN2 (io), 39 P0_4/AN3 (io), 40 P4_2/VREF (io), 41 P6_0/TREO (io), 42 P6_2/CRX0 (io), 43 P6_1/CTX0 (io), 44 P0_3/AN4 (io), 45 P0_2/AN5 (io), 46 P0_1/AN6 (io), 47 P0_0/AN7 (io), 48 P3_7/SSO (io)

## R5F2122AKFP
designator U?
R8C/22 Group Single Chip 16-Bit CMOS MCU, 96K ROM, 5K RAM, K Version; Published: 30-Oct-2009; DatasheetVersion: Rev.2.00, Aug-2008; PackageVersion: Oct-2005; PackageReference: PLQP0048KB-A; Publisher: Altium Limited; PackageDescription: 48-Pin Plastic Low Profile QFP, 7 x 7 x 1.4 mm Body, 0.5 mm Pitch; Code_JEITA: P-LQFP48-7x7-0.50; Code_IPC: SQFP50P900X900-48; ComponentLink1Description: Manufacturer Link; ComponentLink1URL: http://sg.renesas.com/fmwk.jsp?cnt=r8c_family_landing.jsp&fp=/products/mpumcu/r8c_family/; ComponentLink2Description: Datasheet; ComponentLink2URL: http://documentation.renesas.com/eng/products/mpumcu/rej03b0097_r8c2223ds.pdf; ComponentLink3Description: Packaging Specification; ComponentLink3URL: http://sg.renesas.com/media/products/common_info/package/pdf/ic/code/plqp0048kb_a.pdf
footprint PLQP0048KB-A_N (Shrink QFP, 48-Leads, Body 7x7mm, Pitch 0.5mm, IPC Medium Density)
footprint PLQP0048KB-A_L (Shrink QFP, 48-Leads, Body 7x7mm, Pitch 0.5mm, IPC High Density)
footprint PLQP0048KB-A_M (Shrink QFP, 48-Leads, Body 7x7mm, Pitch 0.5mm, IPC Low Density)
pins: 1 P3_5/SCL/SSCK (io), 2 P3_3/SSI (io), 3 P3_4/SDA/~{SCS} (io), 4 MODE (in), 5 P4_3 (io), 6 P4_4 (io), 7 ~{RESET} (in), 8 P4_7/XOUT, 9 VSS/AVSS (power), 10 P4_6/XIN (in), 11 VCC/AVCC (power), 12 P2_7/TRDIOD1 (io), 13 P2_6/TRDIOC1 (io), 14 P2_5/TRDIOB1 (io), 15 P2_4/TRDIOA1 (io), 16 P2_3/TRDIOD0 (io), 17 P2_2/TRDIOC0 (io), 18 P2_1/TRDIOB0 (io), 19 P2_0/TRDIOA0/TRDCLK (io), 20 P1_7/TRAIO/~{INT1} (io), 21 P1_6/CLK0 (io), 22 P1_5/RXD0/(TRAIO)/(~{INT1}) (io), 23 P1_4/TXD0 (io), 24 P1_3/~{KI3}/AN11 (io), 25 P4_5/~{INT0} (io), 26 P6_6/~{INT2}/TXD1 (io), 27 P6_7/~{INT3}/RXD1 (io), 28 P1_2/~{KI2}/AN10 (io), 29 P1_1/~{KI1}/AN9 (io), 30 P1_0/~{KI0}/AN8 (io), 31 P3_1/TRBO (io), 32 P3_0/TRAO (io), 33 P6_5 (io), 34 P6_4 (io), 35 P6_3 (io), 36 P0_7/AN0 (io), 37 P0_6/AN1 (io), 38 P0_5/AN2 (io), 39 P0_4/AN3 (io), 40 P4_2/VREF (io), 41 P6_0/TREO (io), 42 P6_2/CRX0 (io), 43 P6_1/CTX0 (io), 44 P0_3/AN4 (io), 45 P0_2/AN5 (io), 46 P0_1/AN6 (io), 47 P0_0/AN7 (io), 48 P3_7/SSO (io)

## R5F2122CJFP
designator U?
R8C/22 Group Single Chip 16-Bit CMOS MCU, 128K ROM, 6K RAM, J Version; Published: 30-Oct-2009; DatasheetVersion: Rev.2.00, Aug-2008; PackageVersion: Oct-2005; PackageReference: PLQP0048KB-A; Publisher: Altium Limited; PackageDescription: 48-Pin Plastic Low Profile QFP, 7 x 7 x 1.4 mm Body, 0.5 mm Pitch; Code_JEITA: P-LQFP48-7x7-0.50; Code_IPC: SQFP50P900X900-48; ComponentLink1Description: Manufacturer Link; ComponentLink1URL: http://sg.renesas.com/fmwk.jsp?cnt=r8c_family_landing.jsp&fp=/products/mpumcu/r8c_family/; ComponentLink2Description: Datasheet; ComponentLink2URL: http://documentation.renesas.com/eng/products/mpumcu/rej03b0097_r8c2223ds.pdf; ComponentLink3Description: Packaging Specification; ComponentLink3URL: http://sg.renesas.com/media/products/common_info/package/pdf/ic/code/plqp0048kb_a.pdf
footprint PLQP0048KB-A_N (Shrink QFP, 48-Leads, Body 7x7mm, Pitch 0.5mm, IPC Medium Density)
footprint PLQP0048KB-A_L (Shrink QFP, 48-Leads, Body 7x7mm, Pitch 0.5mm, IPC High Density)
footprint PLQP0048KB-A_M (Shrink QFP, 48-Leads, Body 7x7mm, Pitch 0.5mm, IPC Low Density)
pins: 1 P3_5/SCL/SSCK (io), 2 P3_3/SSI (io), 3 P3_4/SDA/~{SCS} (io), 4 MODE (in), 5 P4_3 (io), 6 P4_4 (io), 7 ~{RESET} (in), 8 P4_7/XOUT, 9 VSS/AVSS (power), 10 P4_6/XIN (in), 11 VCC/AVCC (power), 12 P2_7/TRDIOD1 (io), 13 P2_6/TRDIOC1 (io), 14 P2_5/TRDIOB1 (io), 15 P2_4/TRDIOA1 (io), 16 P2_3/TRDIOD0 (io), 17 P2_2/TRDIOC0 (io), 18 P2_1/TRDIOB0 (io), 19 P2_0/TRDIOA0/TRDCLK (io), 20 P1_7/TRAIO/~{INT1} (io), 21 P1_6/CLK0 (io), 22 P1_5/RXD0/(TRAIO)/(~{INT1}) (io), 23 P1_4/TXD0 (io), 24 P1_3/~{KI3}/AN11 (io), 25 P4_5/~{INT0} (io), 26 P6_6/~{INT2}/TXD1 (io), 27 P6_7/~{INT3}/RXD1 (io), 28 P1_2/~{KI2}/AN10 (io), 29 P1_1/~{KI1}/AN9 (io), 30 P1_0/~{KI0}/AN8 (io), 31 P3_1/TRBO (io), 32 P3_0/TRAO (io), 33 P6_5 (io), 34 P6_4 (io), 35 P6_3 (io), 36 P0_7/AN0 (io), 37 P0_6/AN1 (io), 38 P0_5/AN2 (io), 39 P0_4/AN3 (io), 40 P4_2/VREF (io), 41 P6_0/TREO (io), 42 P6_2/CRX0 (io), 43 P6_1/CTX0 (io), 44 P0_3/AN4 (io), 45 P0_2/AN5 (io), 46 P0_1/AN6 (io), 47 P0_0/AN7 (io), 48 P3_7/SSO (io)

## R5F2122CKFP
designator U?
R8C/22 Group Single Chip 16-Bit CMOS MCU, 128K ROM, 6K RAM, K Version; Published: 30-Oct-2009; DatasheetVersion: Rev.2.00, Aug-2008; PackageVersion: Oct-2005; PackageReference: PLQP0048KB-A; Publisher: Altium Limited; PackageDescription: 48-Pin Plastic Low Profile QFP, 7 x 7 x 1.4 mm Body, 0.5 mm Pitch; Code_JEITA: P-LQFP48-7x7-0.50; Code_IPC: SQFP50P900X900-48; ComponentLink1Description: Manufacturer Link; ComponentLink1URL: http://sg.renesas.com/fmwk.jsp?cnt=r8c_family_landing.jsp&fp=/products/mpumcu/r8c_family/; ComponentLink2Description: Datasheet; ComponentLink2URL: http://documentation.renesas.com/eng/products/mpumcu/rej03b0097_r8c2223ds.pdf; ComponentLink3Description: Packaging Specification; ComponentLink3URL: http://sg.renesas.com/media/products/common_info/package/pdf/ic/code/plqp0048kb_a.pdf
footprint PLQP0048KB-A_N (Shrink QFP, 48-Leads, Body 7x7mm, Pitch 0.5mm, IPC Medium Density)
footprint PLQP0048KB-A_L (Shrink QFP, 48-Leads, Body 7x7mm, Pitch 0.5mm, IPC High Density)
footprint PLQP0048KB-A_M (Shrink QFP, 48-Leads, Body 7x7mm, Pitch 0.5mm, IPC Low Density)
pins: 1 P3_5/SCL/SSCK (io), 2 P3_3/SSI (io), 3 P3_4/SDA/~{SCS} (io), 4 MODE (in), 5 P4_3 (io), 6 P4_4 (io), 7 ~{RESET} (in), 8 P4_7/XOUT, 9 VSS/AVSS (power), 10 P4_6/XIN (in), 11 VCC/AVCC (power), 12 P2_7/TRDIOD1 (io), 13 P2_6/TRDIOC1 (io), 14 P2_5/TRDIOB1 (io), 15 P2_4/TRDIOA1 (io), 16 P2_3/TRDIOD0 (io), 17 P2_2/TRDIOC0 (io), 18 P2_1/TRDIOB0 (io), 19 P2_0/TRDIOA0/TRDCLK (io), 20 P1_7/TRAIO/~{INT1} (io), 21 P1_6/CLK0 (io), 22 P1_5/RXD0/(TRAIO)/(~{INT1}) (io), 23 P1_4/TXD0 (io), 24 P1_3/~{KI3}/AN11 (io), 25 P4_5/~{INT0} (io), 26 P6_6/~{INT2}/TXD1 (io), 27 P6_7/~{INT3}/RXD1 (io), 28 P1_2/~{KI2}/AN10 (io), 29 P1_1/~{KI1}/AN9 (io), 30 P1_0/~{KI0}/AN8 (io), 31 P3_1/TRBO (io), 32 P3_0/TRAO (io), 33 P6_5 (io), 34 P6_4 (io), 35 P6_3 (io), 36 P0_7/AN0 (io), 37 P0_6/AN1 (io), 38 P0_5/AN2 (io), 39 P0_4/AN3 (io), 40 P4_2/VREF (io), 41 P6_0/TREO (io), 42 P6_2/CRX0 (io), 43 P6_1/CTX0 (io), 44 P0_3/AN4 (io), 45 P0_2/AN5 (io), 46 P0_1/AN6 (io), 47 P0_0/AN7 (io), 48 P3_7/SSO (io)

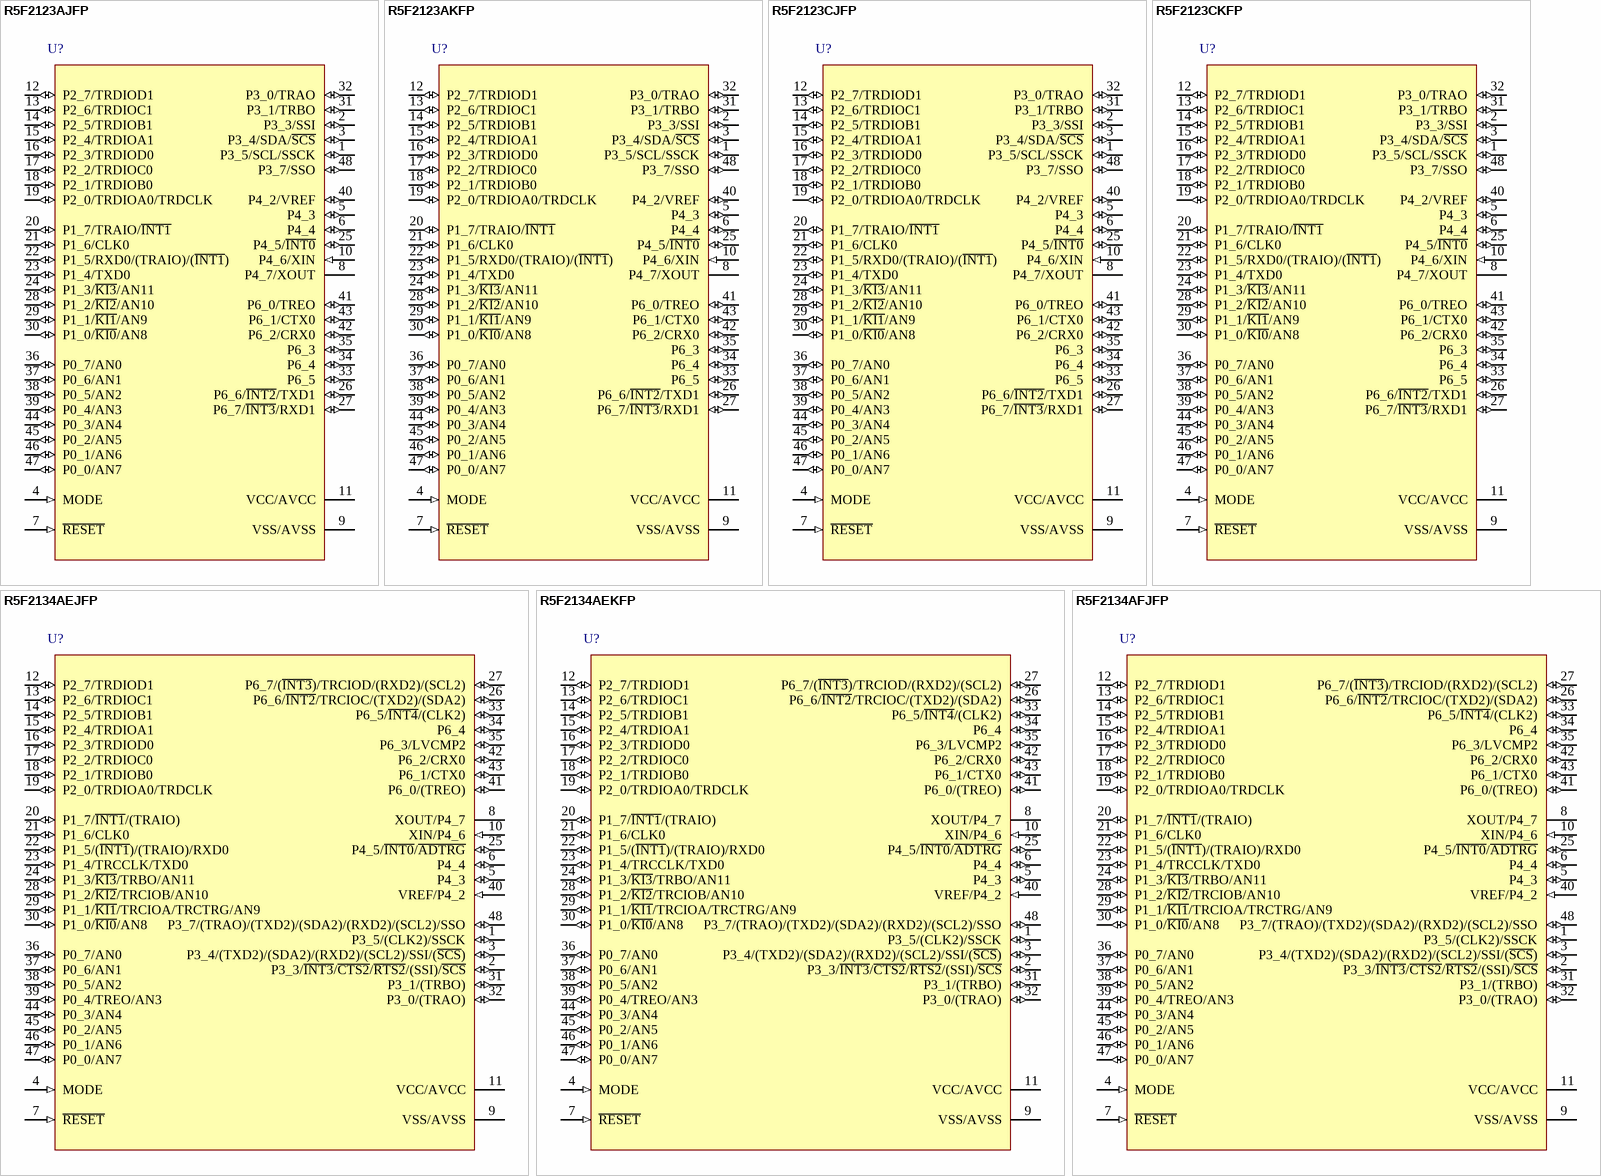
[diagram p59: symbols R5F2123AJFP to R5F2134AFJFP]

## R5F2123AJFP
designator U?
R8C/23 Group Single Chip 16-Bit CMOS MCU, 96K ROM + 1K x2 Data Flash, 5K RAM, J Version; Published: 30-Oct-2009; DatasheetVersion: Rev.2.00, Aug-2008; PackageVersion: Oct-2005; PackageReference: PLQP0048KB-A; Publisher: Altium Limited; PackageDescription: 48-Pin Plastic Low Profile QFP, 7 x 7 x 1.4 mm Body, 0.5 mm Pitch; Code_JEITA: P-LQFP48-7x7-0.50; Code_IPC: SQFP50P900X900-48; ComponentLink1Description: Manufacturer Link; ComponentLink1URL: http://sg.renesas.com/fmwk.jsp?cnt=r8c_family_landing.jsp&fp=/products/mpumcu/r8c_family/; ComponentLink2Description: Datasheet; ComponentLink2URL: http://documentation.renesas.com/eng/products/mpumcu/rej03b0097_r8c2223ds.pdf; ComponentLink3Description: Packaging Specification; ComponentLink3URL: http://sg.renesas.com/media/products/common_info/package/pdf/ic/code/plqp0048kb_a.pdf
footprint PLQP0048KB-A_N (Shrink QFP, 48-Leads, Body 7x7mm, Pitch 0.5mm, IPC Medium Density)
footprint PLQP0048KB-A_L (Shrink QFP, 48-Leads, Body 7x7mm, Pitch 0.5mm, IPC High Density)
footprint PLQP0048KB-A_M (Shrink QFP, 48-Leads, Body 7x7mm, Pitch 0.5mm, IPC Low Density)
pins: 1 P3_5/SCL/SSCK (io), 2 P3_3/SSI (io), 3 P3_4/SDA/~{SCS} (io), 4 MODE (in), 5 P4_3 (io), 6 P4_4 (io), 7 ~{RESET} (in), 8 P4_7/XOUT, 9 VSS/AVSS (power), 10 P4_6/XIN (in), 11 VCC/AVCC (power), 12 P2_7/TRDIOD1 (io), 13 P2_6/TRDIOC1 (io), 14 P2_5/TRDIOB1 (io), 15 P2_4/TRDIOA1 (io), 16 P2_3/TRDIOD0 (io), 17 P2_2/TRDIOC0 (io), 18 P2_1/TRDIOB0 (io), 19 P2_0/TRDIOA0/TRDCLK (io), 20 P1_7/TRAIO/~{INT1} (io), 21 P1_6/CLK0 (io), 22 P1_5/RXD0/(TRAIO)/(~{INT1}) (io), 23 P1_4/TXD0 (io), 24 P1_3/~{KI3}/AN11 (io), 25 P4_5/~{INT0} (io), 26 P6_6/~{INT2}/TXD1 (io), 27 P6_7/~{INT3}/RXD1 (io), 28 P1_2/~{KI2}/AN10 (io), 29 P1_1/~{KI1}/AN9 (io), 30 P1_0/~{KI0}/AN8 (io), 31 P3_1/TRBO (io), 32 P3_0/TRAO (io), 33 P6_5 (io), 34 P6_4 (io), 35 P6_3 (io), 36 P0_7/AN0 (io), 37 P0_6/AN1 (io), 38 P0_5/AN2 (io), 39 P0_4/AN3 (io), 40 P4_2/VREF (io), 41 P6_0/TREO (io), 42 P6_2/CRX0 (io), 43 P6_1/CTX0 (io), 44 P0_3/AN4 (io), 45 P0_2/AN5 (io), 46 P0_1/AN6 (io), 47 P0_0/AN7 (io), 48 P3_7/SSO (io)

## R5F2123AKFP
designator U?
R8C/23 Group Single Chip 16-Bit CMOS MCU, 96K ROM + 1K x2 Data Flash, 5K RAM, K Version; Published: 30-Oct-2009; DatasheetVersion: Rev.2.00, Aug-2008; PackageVersion: Oct-2005; PackageReference: PLQP0048KB-A; Publisher: Altium Limited; PackageDescription: 48-Pin Plastic Low Profile QFP, 7 x 7 x 1.4 mm Body, 0.5 mm Pitch; Code_JEITA: P-LQFP48-7x7-0.50; Code_IPC: SQFP50P900X900-48; ComponentLink1Description: Manufacturer Link; ComponentLink1URL: http://sg.renesas.com/fmwk.jsp?cnt=r8c_family_landing.jsp&fp=/products/mpumcu/r8c_family/; ComponentLink2Description: Datasheet; ComponentLink2URL: http://documentation.renesas.com/eng/products/mpumcu/rej03b0097_r8c2223ds.pdf; ComponentLink3Description: Packaging Specification; ComponentLink3URL: http://sg.renesas.com/media/products/common_info/package/pdf/ic/code/plqp0048kb_a.pdf
footprint PLQP0048KB-A_N (Shrink QFP, 48-Leads, Body 7x7mm, Pitch 0.5mm, IPC Medium Density)
footprint PLQP0048KB-A_L (Shrink QFP, 48-Leads, Body 7x7mm, Pitch 0.5mm, IPC High Density)
footprint PLQP0048KB-A_M (Shrink QFP, 48-Leads, Body 7x7mm, Pitch 0.5mm, IPC Low Density)
pins: 1 P3_5/SCL/SSCK (io), 2 P3_3/SSI (io), 3 P3_4/SDA/~{SCS} (io), 4 MODE (in), 5 P4_3 (io), 6 P4_4 (io), 7 ~{RESET} (in), 8 P4_7/XOUT, 9 VSS/AVSS (power), 10 P4_6/XIN (in), 11 VCC/AVCC (power), 12 P2_7/TRDIOD1 (io), 13 P2_6/TRDIOC1 (io), 14 P2_5/TRDIOB1 (io), 15 P2_4/TRDIOA1 (io), 16 P2_3/TRDIOD0 (io), 17 P2_2/TRDIOC0 (io), 18 P2_1/TRDIOB0 (io), 19 P2_0/TRDIOA0/TRDCLK (io), 20 P1_7/TRAIO/~{INT1} (io), 21 P1_6/CLK0 (io), 22 P1_5/RXD0/(TRAIO)/(~{INT1}) (io), 23 P1_4/TXD0 (io), 24 P1_3/~{KI3}/AN11 (io), 25 P4_5/~{INT0} (io), 26 P6_6/~{INT2}/TXD1 (io), 27 P6_7/~{INT3}/RXD1 (io), 28 P1_2/~{KI2}/AN10 (io), 29 P1_1/~{KI1}/AN9 (io), 30 P1_0/~{KI0}/AN8 (io), 31 P3_1/TRBO (io), 32 P3_0/TRAO (io), 33 P6_5 (io), 34 P6_4 (io), 35 P6_3 (io), 36 P0_7/AN0 (io), 37 P0_6/AN1 (io), 38 P0_5/AN2 (io), 39 P0_4/AN3 (io), 40 P4_2/VREF (io), 41 P6_0/TREO (io), 42 P6_2/CRX0 (io), 43 P6_1/CTX0 (io), 44 P0_3/AN4 (io), 45 P0_2/AN5 (io), 46 P0_1/AN6 (io), 47 P0_0/AN7 (io), 48 P3_7/SSO (io)

## R5F2123CJFP
designator U?
R8C/23 Group Single Chip 16-Bit CMOS MCU, 128K ROM + 1K x2 Data Flash, 6K RAM, J Version; Published: 30-Oct-2009; DatasheetVersion: Rev.2.00, Aug-2008; PackageVersion: Oct-2005; PackageReference: PLQP0048KB-A; Publisher: Altium Limited; PackageDescription: 48-Pin Plastic Low Profile QFP, 7 x 7 x 1.4 mm Body, 0.5 mm Pitch; Code_JEITA: P-LQFP48-7x7-0.50; Code_IPC: SQFP50P900X900-48; ComponentLink1Description: Manufacturer Link; ComponentLink1URL: http://sg.renesas.com/fmwk.jsp?cnt=r8c_family_landing.jsp&fp=/products/mpumcu/r8c_family/; ComponentLink2Description: Datasheet; ComponentLink2URL: http://documentation.renesas.com/eng/products/mpumcu/rej03b0097_r8c2223ds.pdf; ComponentLink3Description: Packaging Specification; ComponentLink3URL: http://sg.renesas.com/media/products/common_info/package/pdf/ic/code/plqp0048kb_a.pdf
footprint PLQP0048KB-A_N (Shrink QFP, 48-Leads, Body 7x7mm, Pitch 0.5mm, IPC Medium Density)
footprint PLQP0048KB-A_L (Shrink QFP, 48-Leads, Body 7x7mm, Pitch 0.5mm, IPC High Density)
footprint PLQP0048KB-A_M (Shrink QFP, 48-Leads, Body 7x7mm, Pitch 0.5mm, IPC Low Density)
pins: 1 P3_5/SCL/SSCK (io), 2 P3_3/SSI (io), 3 P3_4/SDA/~{SCS} (io), 4 MODE (in), 5 P4_3 (io), 6 P4_4 (io), 7 ~{RESET} (in), 8 P4_7/XOUT, 9 VSS/AVSS (power), 10 P4_6/XIN (in), 11 VCC/AVCC (power), 12 P2_7/TRDIOD1 (io), 13 P2_6/TRDIOC1 (io), 14 P2_5/TRDIOB1 (io), 15 P2_4/TRDIOA1 (io), 16 P2_3/TRDIOD0 (io), 17 P2_2/TRDIOC0 (io), 18 P2_1/TRDIOB0 (io), 19 P2_0/TRDIOA0/TRDCLK (io), 20 P1_7/TRAIO/~{INT1} (io), 21 P1_6/CLK0 (io), 22 P1_5/RXD0/(TRAIO)/(~{INT1}) (io), 23 P1_4/TXD0 (io), 24 P1_3/~{KI3}/AN11 (io), 25 P4_5/~{INT0} (io), 26 P6_6/~{INT2}/TXD1 (io), 27 P6_7/~{INT3}/RXD1 (io), 28 P1_2/~{KI2}/AN10 (io), 29 P1_1/~{KI1}/AN9 (io), 30 P1_0/~{KI0}/AN8 (io), 31 P3_1/TRBO (io), 32 P3_0/TRAO (io), 33 P6_5 (io), 34 P6_4 (io), 35 P6_3 (io), 36 P0_7/AN0 (io), 37 P0_6/AN1 (io), 38 P0_5/AN2 (io), 39 P0_4/AN3 (io), 40 P4_2/VREF (io), 41 P6_0/TREO (io), 42 P6_2/CRX0 (io), 43 P6_1/CTX0 (io), 44 P0_3/AN4 (io), 45 P0_2/AN5 (io), 46 P0_1/AN6 (io), 47 P0_0/AN7 (io), 48 P3_7/SSO (io)

## R5F2123CKFP
designator U?
R8C/23 Group Single Chip 16-Bit CMOS MCU, 128K ROM + 1K x2 Data Flash, 6K RAM, K Version; Published: 30-Oct-2009; DatasheetVersion: Rev.2.00, Aug-2008; PackageVersion: Oct-2005; PackageReference: PLQP0048KB-A; Publisher: Altium Limited; PackageDescription: 48-Pin Plastic Low Profile QFP, 7 x 7 x 1.4 mm Body, 0.5 mm Pitch; Code_JEITA: P-LQFP48-7x7-0.50; Code_IPC: SQFP50P900X900-48; ComponentLink1Description: Manufacturer Link; ComponentLink1URL: http://sg.renesas.com/fmwk.jsp?cnt=r8c_family_landing.jsp&fp=/products/mpumcu/r8c_family/; ComponentLink2Description: Datasheet; ComponentLink2URL: http://documentation.renesas.com/eng/products/mpumcu/rej03b0097_r8c2223ds.pdf; ComponentLink3Description: Packaging Specification; ComponentLink3URL: http://sg.renesas.com/media/products/common_info/package/pdf/ic/code/plqp0048kb_a.pdf
footprint PLQP0048KB-A_N (Shrink QFP, 48-Leads, Body 7x7mm, Pitch 0.5mm, IPC Medium Density)
footprint PLQP0048KB-A_L (Shrink QFP, 48-Leads, Body 7x7mm, Pitch 0.5mm, IPC High Density)
footprint PLQP0048KB-A_M (Shrink QFP, 48-Leads, Body 7x7mm, Pitch 0.5mm, IPC Low Density)
pins: 1 P3_5/SCL/SSCK (io), 2 P3_3/SSI (io), 3 P3_4/SDA/~{SCS} (io), 4 MODE (in), 5 P4_3 (io), 6 P4_4 (io), 7 ~{RESET} (in), 8 P4_7/XOUT, 9 VSS/AVSS (power), 10 P4_6/XIN (in), 11 VCC/AVCC (power), 12 P2_7/TRDIOD1 (io), 13 P2_6/TRDIOC1 (io), 14 P2_5/TRDIOB1 (io), 15 P2_4/TRDIOA1 (io), 16 P2_3/TRDIOD0 (io), 17 P2_2/TRDIOC0 (io), 18 P2_1/TRDIOB0 (io), 19 P2_0/TRDIOA0/TRDCLK (io), 20 P1_7/TRAIO/~{INT1} (io), 21 P1_6/CLK0 (io), 22 P1_5/RXD0/(TRAIO)/(~{INT1}) (io), 23 P1_4/TXD0 (io), 24 P1_3/~{KI3}/AN11 (io), 25 P4_5/~{INT0} (io), 26 P6_6/~{INT2}/TXD1 (io), 27 P6_7/~{INT3}/RXD1 (io), 28 P1_2/~{KI2}/AN10 (io), 29 P1_1/~{KI1}/AN9 (io), 30 P1_0/~{KI0}/AN8 (io), 31 P3_1/TRBO (io), 32 P3_0/TRAO (io), 33 P6_5 (io), 34 P6_4 (io), 35 P6_3 (io), 36 P0_7/AN0 (io), 37 P0_6/AN1 (io), 38 P0_5/AN2 (io), 39 P0_4/AN3 (io), 40 P4_2/VREF (io), 41 P6_0/TREO (io), 42 P6_2/CRX0 (io), 43 P6_1/CTX0 (io), 44 P0_3/AN4 (io), 45 P0_2/AN5 (io), 46 P0_1/AN6 (io), 47 P0_0/AN7 (io), 48 P3_7/SSO (io)

## R5F2134AEJFP
designator U?
R8C/34E Group Single Chip 16-Bit CMOS MCU, 96K ROM + 1K x4 Data Flash, 8K RAM, J Version; Published: 30-Oct-2009; DatasheetVersion: Rev.0.10, Apr-2008; PackageVersion: Oct-2005; PackageReference: PLQP0048KB-A; Publisher: Altium Limited; PackageDescription: 48-Pin Plastic Low Profile QFP, 7 x 7 x 1.4 mm Body, 0.5 mm Pitch; Code_JEITA: P-LQFP48-7x7-0.50; Code_IPC: SQFP50P900X900-48; ComponentLink1Description: Manufacturer Link; ComponentLink1URL: http://sg.renesas.com/fmwk.jsp?cnt=r8c_family_landing.jsp&fp=/products/mpumcu/r8c_family/; ComponentLink2Description: Datasheet; ComponentLink2URL: http://documentation.renesas.com/eng/products/mpumcu/rej03b0246_r8c34ess.pdf; ComponentLink3Description: Packaging Specification; ComponentLink3URL: http://sg.renesas.com/media/products/common_info/package/pdf/ic/code/plqp0048kb_a.pdf
footprint PLQP0048KB-A_N (Shrink QFP, 48-Leads, Body 7x7mm, Pitch 0.5mm, IPC Medium Density)
footprint PLQP0048KB-A_L (Shrink QFP, 48-Leads, Body 7x7mm, Pitch 0.5mm, IPC High Density)
footprint PLQP0048KB-A_M (Shrink QFP, 48-Leads, Body 7x7mm, Pitch 0.5mm, IPC Low Density)
pins: 1 P3_5/(CLK2)/SSCK (io), 2 P3_3/~{INT3}/~{CTS2}/~{RTS2}/(SSI)/~{SCS} (io), 3 P3_4/(TXD2)/(SDA2)/(RXD2)/(SCL2)/SSI/(~{SCS}) (io), 4 MODE (in), 5 P4_3 (io), 6 P4_4 (io), 7 ~{RESET} (in), 8 XOUT/P4_7, 9 VSS/AVSS (power), 10 XIN/P4_6 (in), 11 VCC/AVCC (power), 12 P2_7/TRDIOD1 (io), 13 P2_6/TRDIOC1 (io), 14 P2_5/TRDIOB1 (io), 15 P2_4/TRDIOA1 (io), 16 P2_3/TRDIOD0 (io), 17 P2_2/TRDIOC0 (io), 18 P2_1/TRDIOB0 (io), 19 P2_0/TRDIOA0/TRDCLK (io), 20 P1_7/~{INT1}/(TRAIO) (io), 21 P1_6/CLK0 (io), 22 P1_5/(~{INT1})/(TRAIO)/RXD0 (io), 23 P1_4/TRCCLK/TXD0 (io), 24 P1_3/~{KI3}/TRBO/AN11 (io), 25 P4_5/~{INT0}/~{ADTRG} (io), 26 P6_6/~{INT2}/TRCIOC/(TXD2)/(SDA2) (io), 27 P6_7/(~{INT3})/TRCIOD/(RXD2)/(SCL2) (io), 28 P1_2/~{KI2}/TRCIOB/AN10 (io), 29 P1_1/~{KI1}/TRCIOA/TRCTRG/AN9 (io), 30 P1_0/~{KI0}/AN8 (io), 31 P3_1/(TRBO) (io), 32 P3_0/(TRAO) (io), 33 P6_5/~{INT4}/(CLK2) (io), 34 P6_4 (io), 35 P6_3/LVCMP2 (io), 36 P0_7/AN0 (io), 37 P0_6/AN1 (io), 38 P0_5/AN2 (io), 39 P0_4/TREO/AN3 (io), 40 VREF/P4_2 (in), 41 P6_0/(TREO) (io), 42 P6_2/CRX0 (io), 43 P6_1/CTX0 (io), 44 P0_3/AN4 (io), 45 P0_2/AN5 (io), 46 P0_1/AN6 (io), 47 P0_0/AN7 (io), 48 P3_7/(TRAO)/(TXD2)/(SDA2)/(RXD2)/(SCL2)/SSO (io)

## R5F2134AEKFP
designator U?
R8C/34E Group Single Chip 16-Bit CMOS MCU, 96K ROM + 1K x4 Data Flash, 8K RAM, K Version; Published: 30-Oct-2009; DatasheetVersion: Rev.0.10, Apr-2008; PackageVersion: Oct-2005; PackageReference: PLQP0048KB-A; Publisher: Altium Limited; PackageDescription: 48-Pin Plastic Low Profile QFP, 7 x 7 x 1.4 mm Body, 0.5 mm Pitch; Code_JEITA: P-LQFP48-7x7-0.50; Code_IPC: SQFP50P900X900-48; ComponentLink1Description: Manufacturer Link; ComponentLink1URL: http://sg.renesas.com/fmwk.jsp?cnt=r8c_family_landing.jsp&fp=/products/mpumcu/r8c_family/; ComponentLink2Description: Datasheet; ComponentLink2URL: http://documentation.renesas.com/eng/products/mpumcu/rej03b0246_r8c34ess.pdf; ComponentLink3Description: Packaging Specification; ComponentLink3URL: http://sg.renesas.com/media/products/common_info/package/pdf/ic/code/plqp0048kb_a.pdf
footprint PLQP0048KB-A_N (Shrink QFP, 48-Leads, Body 7x7mm, Pitch 0.5mm, IPC Medium Density)
footprint PLQP0048KB-A_L (Shrink QFP, 48-Leads, Body 7x7mm, Pitch 0.5mm, IPC High Density)
footprint PLQP0048KB-A_M (Shrink QFP, 48-Leads, Body 7x7mm, Pitch 0.5mm, IPC Low Density)
pins: 1 P3_5/(CLK2)/SSCK (io), 2 P3_3/~{INT3}/~{CTS2}/~{RTS2}/(SSI)/~{SCS} (io), 3 P3_4/(TXD2)/(SDA2)/(RXD2)/(SCL2)/SSI/(~{SCS}) (io), 4 MODE (in), 5 P4_3 (io), 6 P4_4 (io), 7 ~{RESET} (in), 8 XOUT/P4_7, 9 VSS/AVSS (power), 10 XIN/P4_6 (in), 11 VCC/AVCC (power), 12 P2_7/TRDIOD1 (io), 13 P2_6/TRDIOC1 (io), 14 P2_5/TRDIOB1 (io), 15 P2_4/TRDIOA1 (io), 16 P2_3/TRDIOD0 (io), 17 P2_2/TRDIOC0 (io), 18 P2_1/TRDIOB0 (io), 19 P2_0/TRDIOA0/TRDCLK (io), 20 P1_7/~{INT1}/(TRAIO) (io), 21 P1_6/CLK0 (io), 22 P1_5/(~{INT1})/(TRAIO)/RXD0 (io), 23 P1_4/TRCCLK/TXD0 (io), 24 P1_3/~{KI3}/TRBO/AN11 (io), 25 P4_5/~{INT0}/~{ADTRG} (io), 26 P6_6/~{INT2}/TRCIOC/(TXD2)/(SDA2) (io), 27 P6_7/(~{INT3})/TRCIOD/(RXD2)/(SCL2) (io), 28 P1_2/~{KI2}/TRCIOB/AN10 (io), 29 P1_1/~{KI1}/TRCIOA/TRCTRG/AN9 (io), 30 P1_0/~{KI0}/AN8 (io), 31 P3_1/(TRBO) (io), 32 P3_0/(TRAO) (io), 33 P6_5/~{INT4}/(CLK2) (io), 34 P6_4 (io), 35 P6_3/LVCMP2 (io), 36 P0_7/AN0 (io), 37 P0_6/AN1 (io), 38 P0_5/AN2 (io), 39 P0_4/TREO/AN3 (io), 40 VREF/P4_2 (in), 41 P6_0/(TREO) (io), 42 P6_2/CRX0 (io), 43 P6_1/CTX0 (io), 44 P0_3/AN4 (io), 45 P0_2/AN5 (io), 46 P0_1/AN6 (io), 47 P0_0/AN7 (io), 48 P3_7/(TRAO)/(TXD2)/(SDA2)/(RXD2)/(SCL2)/SSO (io)

## R5F2134AFJFP
designator U?
R8C/34F Group Single Chip 16-Bit CMOS MCU, 96K ROM, 8K RAM, J Version; Published: 30-Oct-2009; DatasheetVersion: Rev.0.10, Apr-2008; PackageVersion: Oct-2005; PackageReference: PLQP0048KB-A; Publisher: Altium Limited; PackageDescription: 48-Pin Plastic Low Profile QFP, 7 x 7 x 1.4 mm Body, 0.5 mm Pitch; Code_JEITA: P-LQFP48-7x7-0.50; Code_IPC: SQFP50P900X900-48; ComponentLink1Description: Manufacturer Link; ComponentLink1URL: http://sg.renesas.com/fmwk.jsp?cnt=r8c_family_landing.jsp&fp=/products/mpumcu/r8c_family/; ComponentLink2Description: Datasheet; ComponentLink2URL: http://documentation.renesas.com/eng/products/mpumcu/rej03b0246_r8c34ess.pdf; ComponentLink3Description: Packaging Specification; ComponentLink3URL: http://sg.renesas.com/media/products/common_info/package/pdf/ic/code/plqp0048kb_a.pdf
footprint PLQP0048KB-A_N (Shrink QFP, 48-Leads, Body 7x7mm, Pitch 0.5mm, IPC Medium Density)
footprint PLQP0048KB-A_L (Shrink QFP, 48-Leads, Body 7x7mm, Pitch 0.5mm, IPC High Density)
footprint PLQP0048KB-A_M (Shrink QFP, 48-Leads, Body 7x7mm, Pitch 0.5mm, IPC Low Density)
pins: 1 P3_5/(CLK2)/SSCK (io), 2 P3_3/~{INT3}/~{CTS2}/~{RTS2}/(SSI)/~{SCS} (io), 3 P3_4/(TXD2)/(SDA2)/(RXD2)/(SCL2)/SSI/(~{SCS}) (io), 4 MODE (in), 5 P4_3 (io), 6 P4_4 (io), 7 ~{RESET} (in), 8 XOUT/P4_7, 9 VSS/AVSS (power), 10 XIN/P4_6 (in), 11 VCC/AVCC (power), 12 P2_7/TRDIOD1 (io), 13 P2_6/TRDIOC1 (io), 14 P2_5/TRDIOB1 (io), 15 P2_4/TRDIOA1 (io), 16 P2_3/TRDIOD0 (io), 17 P2_2/TRDIOC0 (io), 18 P2_1/TRDIOB0 (io), 19 P2_0/TRDIOA0/TRDCLK (io), 20 P1_7/~{INT1}/(TRAIO) (io), 21 P1_6/CLK0 (io), 22 P1_5/(~{INT1})/(TRAIO)/RXD0 (io), 23 P1_4/TRCCLK/TXD0 (io), 24 P1_3/~{KI3}/TRBO/AN11 (io), 25 P4_5/~{INT0}/~{ADTRG} (io), 26 P6_6/~{INT2}/TRCIOC/(TXD2)/(SDA2) (io), 27 P6_7/(~{INT3})/TRCIOD/(RXD2)/(SCL2) (io), 28 P1_2/~{KI2}/TRCIOB/AN10 (io), 29 P1_1/~{KI1}/TRCIOA/TRCTRG/AN9 (io), 30 P1_0/~{KI0}/AN8 (io), 31 P3_1/(TRBO) (io), 32 P3_0/(TRAO) (io), 33 P6_5/~{INT4}/(CLK2) (io), 34 P6_4 (io), 35 P6_3/LVCMP2 (io), 36 P0_7/AN0 (io), 37 P0_6/AN1 (io), 38 P0_5/AN2 (io), 39 P0_4/TREO/AN3 (io), 40 VREF/P4_2 (in), 41 P6_0/(TREO) (io), 42 P6_2/CRX0 (io), 43 P6_1/CTX0 (io), 44 P0_3/AN4 (io), 45 P0_2/AN5 (io), 46 P0_1/AN6 (io), 47 P0_0/AN7 (io), 48 P3_7/(TRAO)/(TXD2)/(SDA2)/(RXD2)/(SCL2)/SSO (io)

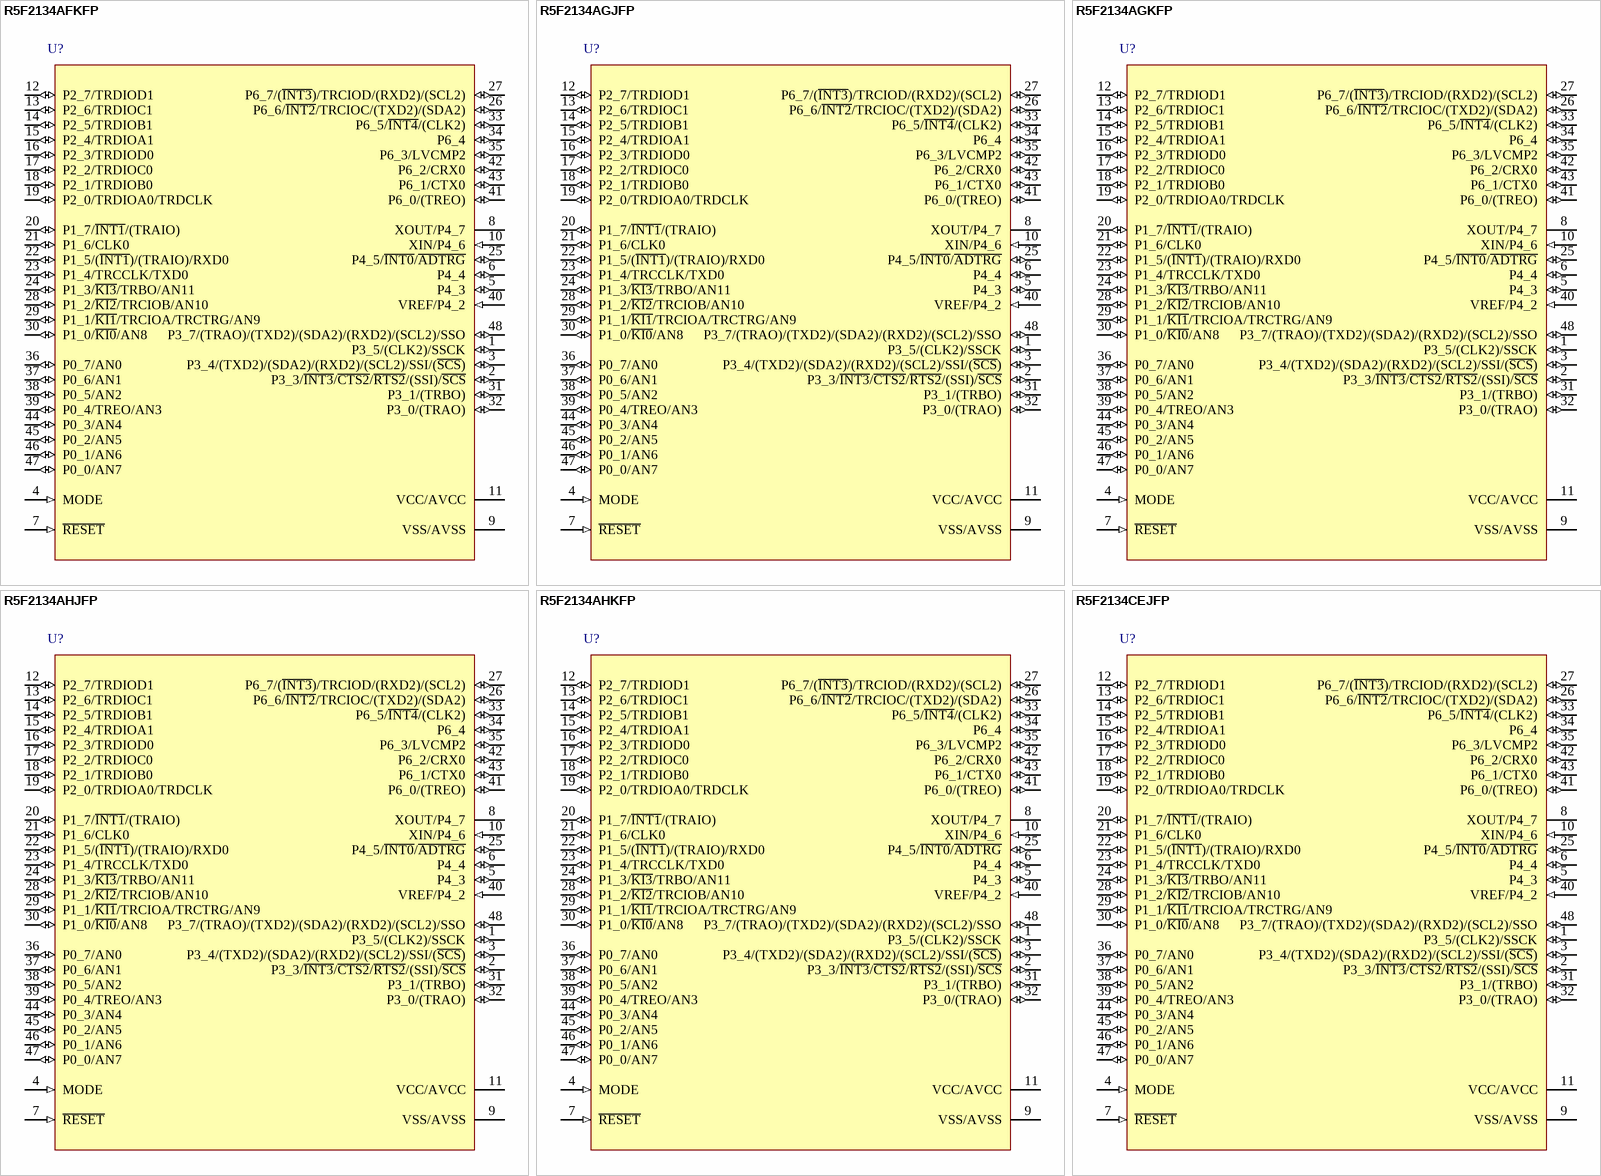
[diagram p60: symbols R5F2134AFKFP to R5F2134CEJFP]

## R5F2134AFKFP
designator U?
R8C/34F Group Single Chip 16-Bit CMOS MCU, 96K ROM, 8K RAM, K Version; Published: 30-Oct-2009; DatasheetVersion: Rev.0.10, Apr-2008; PackageVersion: Oct-2005; PackageReference: PLQP0048KB-A; Publisher: Altium Limited; PackageDescription: 48-Pin Plastic Low Profile QFP, 7 x 7 x 1.4 mm Body, 0.5 mm Pitch; Code_JEITA: P-LQFP48-7x7-0.50; Code_IPC: SQFP50P900X900-48; ComponentLink1Description: Manufacturer Link; ComponentLink1URL: http://sg.renesas.com/fmwk.jsp?cnt=r8c_family_landing.jsp&fp=/products/mpumcu/r8c_family/; ComponentLink2Description: Datasheet; ComponentLink2URL: http://documentation.renesas.com/eng/products/mpumcu/rej03b0246_r8c34ess.pdf; ComponentLink3Description: Packaging Specification; ComponentLink3URL: http://sg.renesas.com/media/products/common_info/package/pdf/ic/code/plqp0048kb_a.pdf
footprint PLQP0048KB-A_N (Shrink QFP, 48-Leads, Body 7x7mm, Pitch 0.5mm, IPC Medium Density)
footprint PLQP0048KB-A_L (Shrink QFP, 48-Leads, Body 7x7mm, Pitch 0.5mm, IPC High Density)
footprint PLQP0048KB-A_M (Shrink QFP, 48-Leads, Body 7x7mm, Pitch 0.5mm, IPC Low Density)
pins: 1 P3_5/(CLK2)/SSCK (io), 2 P3_3/~{INT3}/~{CTS2}/~{RTS2}/(SSI)/~{SCS} (io), 3 P3_4/(TXD2)/(SDA2)/(RXD2)/(SCL2)/SSI/(~{SCS}) (io), 4 MODE (in), 5 P4_3 (io), 6 P4_4 (io), 7 ~{RESET} (in), 8 XOUT/P4_7, 9 VSS/AVSS (power), 10 XIN/P4_6 (in), 11 VCC/AVCC (power), 12 P2_7/TRDIOD1 (io), 13 P2_6/TRDIOC1 (io), 14 P2_5/TRDIOB1 (io), 15 P2_4/TRDIOA1 (io), 16 P2_3/TRDIOD0 (io), 17 P2_2/TRDIOC0 (io), 18 P2_1/TRDIOB0 (io), 19 P2_0/TRDIOA0/TRDCLK (io), 20 P1_7/~{INT1}/(TRAIO) (io), 21 P1_6/CLK0 (io), 22 P1_5/(~{INT1})/(TRAIO)/RXD0 (io), 23 P1_4/TRCCLK/TXD0 (io), 24 P1_3/~{KI3}/TRBO/AN11 (io), 25 P4_5/~{INT0}/~{ADTRG} (io), 26 P6_6/~{INT2}/TRCIOC/(TXD2)/(SDA2) (io), 27 P6_7/(~{INT3})/TRCIOD/(RXD2)/(SCL2) (io), 28 P1_2/~{KI2}/TRCIOB/AN10 (io), 29 P1_1/~{KI1}/TRCIOA/TRCTRG/AN9 (io), 30 P1_0/~{KI0}/AN8 (io), 31 P3_1/(TRBO) (io), 32 P3_0/(TRAO) (io), 33 P6_5/~{INT4}/(CLK2) (io), 34 P6_4 (io), 35 P6_3/LVCMP2 (io), 36 P0_7/AN0 (io), 37 P0_6/AN1 (io), 38 P0_5/AN2 (io), 39 P0_4/TREO/AN3 (io), 40 VREF/P4_2 (in), 41 P6_0/(TREO) (io), 42 P6_2/CRX0 (io), 43 P6_1/CTX0 (io), 44 P0_3/AN4 (io), 45 P0_2/AN5 (io), 46 P0_1/AN6 (io), 47 P0_0/AN7 (io), 48 P3_7/(TRAO)/(TXD2)/(SDA2)/(RXD2)/(SCL2)/SSO (io)